# Altium schematic symbol library CompleteLibrary.SchLib: 385 symbols (part 1 of 3)
Pins are listed as number, name and electrical type; pins without a type are passive.

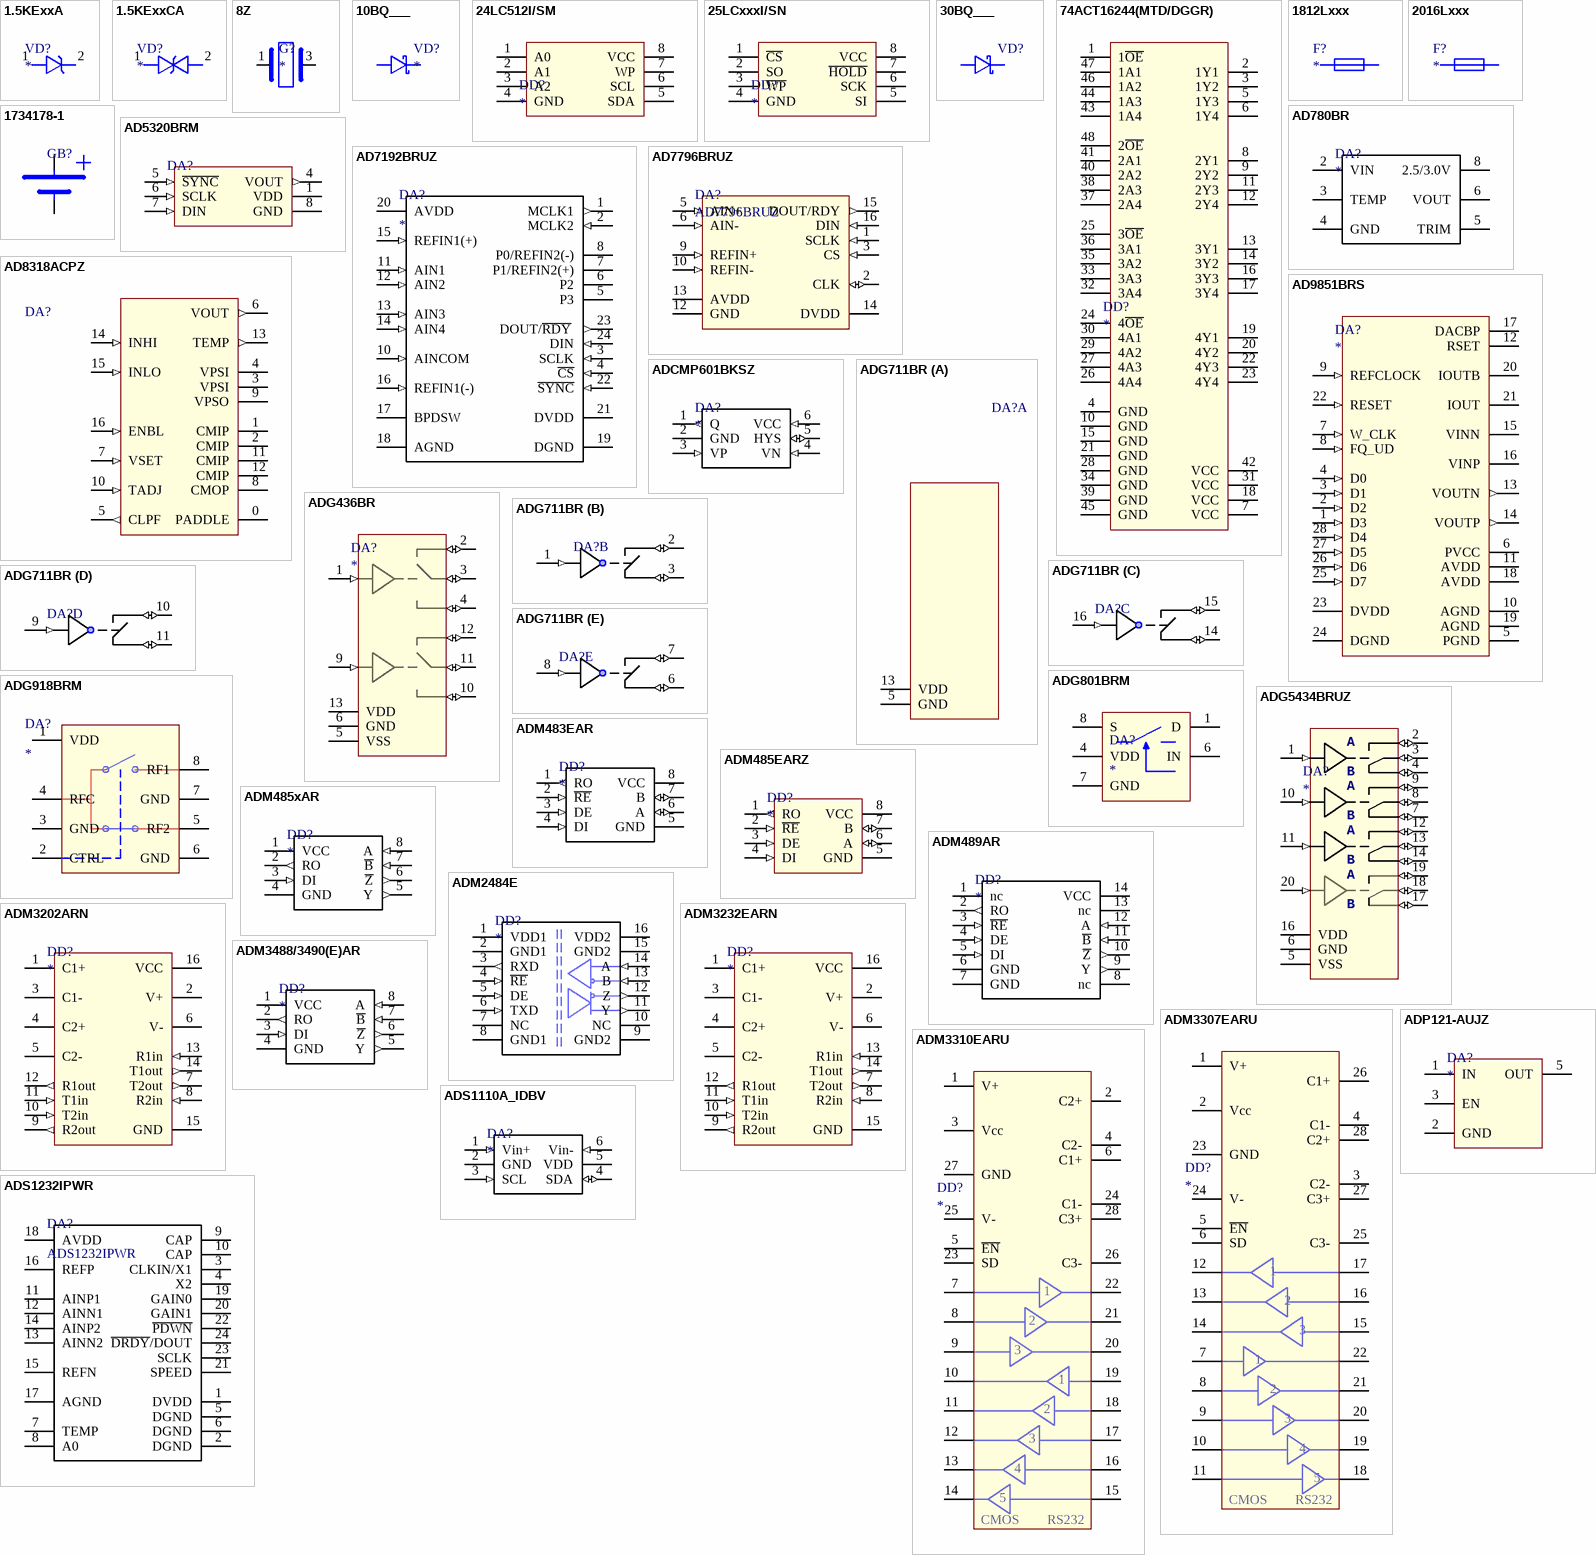
[diagram p0: symbols 1.5KExxA to ADS1232IPWR]

## 1.5KExxA
designator VD?
DIODE TVS Unidirectional 1500W TRANSIL 6.8V...440V; Описание: ???; Аналог: нет
footprint R6
pins: 1, 2

## 1.5KExxCA
designator VD?
DIODE TVS Bidirectional 1500W TRANSIL 6.8V...440V; Описание: ???; Аналог: нет
footprint R6
pins: 1, 2

## 8Z
designator G?
OSCILLATOR TXC 2.5x2.0mm; Описание: Кварцевый резонатор SMD; Аналог: нет; x: 8Z-27.120MAHQ-T
footprint TXC_8Z
pins: 1, 3

## 10BQ___
designator VD?
DIODE Schottky rectifier; Описание: Диод SMB; Аналог: нет; x: 10bq015/030/040/060/100
footprint SMB_10BQ40
pins: 1, 2

## 24LC512I/SM
designator DD?
IC MEMORY 512K I2C CMOS Serial EEPROM; Описание: ???; Аналог: нет
footprint SO8_24LC412
pins: 1 A0, 2 A1, 3 A2, 4 GND, 5 SDA, 6 SCL, 7 WP, 8 VCC

## 25LCxxxI/SN
designator DD?
IC MEMORY SPI Serial EEPROM; Описание: ???; Аналог: нет
footprint SO8
pins: 1 ~{CS}, 2 SO, 3 ~{WP}, 4 GND, 5 SI, 6 SCK, 7 ~{HOLD}, 8 VCC

## 30BQ___
designator VD?
DIODE Schottky rectifier; Описание: Диод SMC; Аналог: нет; x: 30bq040 30bq060 30bq100
footprint SMC
pins: 1, 2

## 74ACT16244(MTD/DGGR)
designator DD?
IC 16-bit  buffers/line drivers TSSOP48; Описание: ???; Аналог: нет
footprint TSSOP48_SN54ACT16244
pins: 1 1~{OE}, 2 1Y1, 3 1Y2, 4 GND, 5 1Y3, 6 1Y4, 7 VCC, 8 2Y1, 9 2Y2, 10 GND, 11 2Y3, 12 2Y4, 13 3Y1, 14 3Y2, 15 GND, 16 3Y3, 17 3Y4, 18 VCC, 19 4Y1, 20 4Y2, 21 GND, 22 4Y3, 23 4Y4, 24 4~{OE}, 25 3~{OE}, 26 4A4, 27 4A3, 28 GND, 29 4A2, 30 4A1, 31 VCC, 32 3A4, 33 3A3, 34 GND, 35 3A2, 36 3A1, 37 2A4, 38 2A3, 39 GND, 40 2A2, 41 2A1, 42 VCC, 43 1A4, 44 1A3, 45 GND, 46 1A2, 47 1A1, 48 2~{OE}

## 1812Lxxx
designator F?
RESISTOR PTC Resettable Fuse; Описание: Предохранитель; Аналог: нет
footprint 1812Lxxx
pins: 1, 2

## 2016Lxxx
designator F?
RESISTOR PTC Resettable Fuse; Описание: Предохранитель; Аналог: нет
footprint 2016L050
pins: 1, 2

## 1734178-1
designator GB?  (value not drawn)
BATTERY CR2032; Описание: Литиевая батарейка; Аналог: нет
footprint 1734178-1
pins: 1 +, 2 -

## AD780BR
designator DA?
IC High Precision Reference 2.5 V/3.0 V; Описание: Микросхема SO8; Аналог: нет
footprint SO8
pins: 2 VIN, 3 TEMP, 4 GND, 5 TRIM, 6 VOUT, 8 2.5/3.0V

## AD5320BRM
designator DA?  (value not drawn)
IC 12-Bit DAC; Описание: ???; Аналог: нет
footprint MSOP8_AD5320
pins: 1 VDD (power), 4 VOUT (out), 5 ~{SYNC} (in), 6 SCLK (in), 7 DIN (in), 8 GND (power)

## AD7192BRUZ
designator DA?
IC 240bit sigma-delta ADC; Аналог: нет; Описание: ???
footprint TSSOP24_AD
pins: 1 MCLK1 (out), 2 MCLK2 (in), 3 SCLK (in), 4 ~{CS} (in), 5 P3, 6 P2, 7 P1/REFIN2(+), 8 P0/REFIN2(-), 10 AINCOM (in), 11 AIN1 (in), 12 AIN2 (in), 13 AIN3 (in), 14 AIN4 (in), 15 REFIN1(+) (in), 16 REFIN1(-) (in), 17 BPDSW, 18 AGND, 19 DGND, 20 AVDD, 21 DVDD, 22 ~{SYNC} (in), 23 DOUT/~{RDY}  (out), 24 DIN (in)

## AD7796BRUZ
designator DA?
IC 24-bit sigma-delta ADC; Описание: ???; Аналог: нет
footprint TSSOP16_TPS43000
pins: 1 SCLK (in), 2 CLK (io), 3 CS (in), 5 AIN+ (in), 6 AIN- (in), 9 REFIN+ (in), 10 REFIN- (in), 12 GND (power), 13 AVDD (power), 14 DVDD (power), 15 DOUT/RDY (out), 16 DIN (in)

## AD8318ACPZ
designator DA?  (value not drawn)
IC 1MHz...8GHz 70dB Logarithmic Detector/Controller; Описание: ???; Аналог: нет
footprint LFCSP16_AD8318
pins: 0 PADDLE (power) "Internally Connected to CMIP (Solder to Ground).", 1 CMIP (power) "Device Common (Input System Ground)", 2 CMIP (power) "Device Common (Input System Ground)", 3 VPSI (power) "Positive Supply Voltage (Input System): 4.5 V to 5.5 V.", 4 VPSI (power) "Positive Supply Voltage (Input System): 4.5 V to 5.5 V.", 5 CLPF (out) "Loop Filter Capacitor", 6 VOUT (out) "Measurement and Controller Output.", 7 VSET (in) "Setpoint Input for Controller Mode or Feedback Input for Measurement Mode.", 8 CMOP (power) "Device Common (Output System Ground).", 9 VPSO (power) "Positive Supply Voltage (Output System): 4.5 V to 5.5 V.", 10 TADJ (in) "Temperature Compensation Adjustment.", 11 CMIP (power) "Device Common (Input System Ground)", 12 CMIP (power) "Device Common (Input System Ground)", 13 TEMP (out) "Temperature Sensor Output.", 14 INHI (in) "RF Input. Nominal input range: ?60 dBm to 0 dBm (re: 50 ?), ac-coupled.", 15 INLO (in) "RF Common for INHI. AC-coupled RF common.", 16 ENBL (in) "Device Enable. Connect to VPSI for normal operation. Connect pin to ground for disable mode."

## AD9851BRS
designator DA?
IC CMOS 180 MHz  DDS/DAC Synthesizer; Описание: ???; Аналог: нет
footprint SSOP28_AD9851BRS
pins: 1 D3 (in), 2 D2 (in), 3 D1 (in), 4 D0 (in), 5 PGND, 6 PVCC, 7 W_CLK (in), 8 FQ_UD (in), 9 REFCLOCK (in), 10 AGND, 11 AVDD, 12 RSET, 13 VOUTN (out), 14 VOUTP (out), 15 VINN, 16 VINP, 17 DACBP, 18 AVDD, 19 AGND, 20 IOUTB, 21 IOUT, 22 RESET (in), 23 DVDD, 24 DGND, 25 D7 (in), 26 D6 (in), 27 D5 (in), 28 D4 (in)

## ADCMP601BKSZ
designator DA?
IC; Описание: Микросхема SC70-6; Аналог: нет
footprint SC70-6
pins: 1 Q (out), 2 GND (power), 3 VP (in), 4 VN (in), 5 HYS (io), 6 VCC (in)

## ADG436BR
designator DA?
IC; Описание: ???; Аналог: нет
footprint SO16
footprint SOIC-16-150mil-COMPACT
pins: 1 IN (in), 2 D (io), 3 S (io), 4 D (io), 5 VSS (power), 6 GND (power), 9 IN (in), 10 D (io), 11 S (io), 12 D (io), 13 VDD (power)

## ADG711BR
designator DA?  (value not drawn)
IC CMOS Low Voltage 4 Ohm Quad SPST Switches; Описание: ???; Аналог: нет
footprint SO16
part A pins: 5 GND, 13 VDD
part B pins: 1 IN (in), 2 D (io), 3 S (io)
part C pins: 14 S (io), 15 D (io), 16 IN (in)
part D pins: 9 IN (in), 10 D (io), 11 S (io)
part E pins: 6 S (io), 7 D (io), 8 IN (in)

## ADG801BRM
designator DA?
IC <0.4 ohm CMOS 1.8 V to 5.5 V  SPST Switch; Описание: ???; Аналог: нет
footprint MSOP8_ADG801
pins: 1 D, 4 VDD, 6 IN, 7 GND, 8 S

## ADG918BRM
designator DA?
IC Wideband 4 GHz CMOS SPDT; Описание: ???; Аналог: нет
footprint MSOP8_ADG918
pins: 1 VDD, 2 CTRL, 3 GND, 4 RFC, 5 RF2, 6 GND, 7 GND, 8 RF1

## ADG5434BRUZ
designator DA?
IC; Описание: ???; Аналог: нет
footprint TSSOP20_AD
pins: 1 IN (in), 2 D (io), 3 S (io), 4 D (io), 5 VSS (power), 6 GND (power), 7 D (io), 8 S (io), 9 D (io), 10 IN (in), 11 IN (in), 12 D (io), 13 S (io), 14 D (io), 16 VDD (power), 17 D (io), 18 S (io), 19 D (io), 20 IN (in)
text: A; B

## ADM483EAR
designator DD?
IC TRANSCEIVER RS485 +5V 250kbps HalfDuplex; Описание: ???; Аналог: нет
footprint SO8
pins: 1 RO (out), 2 ~{RE} (in), 3 DE (in), 4 DI (in), 5 GND (power), 6 A (io), 7 B (io), 8 VCC (power)

## ADM485EARZ
designator DD?
IC TRANSCEIVER RS485; Описание: ???; Аналог: нет
footprint SO8
pins: 1 RO (out), 2 ~{RE} (in), 3 DE (in), 4 DI (in), 5 GND (power), 6 A (io), 7 B (io), 8 VCC (power)

## ADM485xAR
designator DD?
IC TRANSCEIVER RS485 +5V FullDuplex 115kbps(x=4)/500kbps(x=5)/2.5Mbps(x=6)/10Mbps(x=7); Описание: Микросхема SO8; Аналог: нет; x: ADM4850: 115 kbps ADM4851: 500 kbps ADM4852: 2.5 Mbps ADM4853: 10 Mbps
footprint SO8
pins: 1 VCC (power), 2 RO (out), 3 DI (in), 4 GND (power), 5 Y (out), 6 ~{Z} (out), 7 ~{B} (in), 8 A (in)

## ADM489AR
designator DD?
IC TRANSCEIVER RS485 +5V 250kbps FullDuplex; Описание: Микросхема SO14; Аналог: MAX489ESD
footprint SO14
pins: 1 nc, 2 RO (out), 3 ~{RE} (in), 4 DE (in), 5 DI (in), 6 GND (power), 7 GND (power), 8 nc, 9 Y (out), 10 ~{Z} (out), 11 ~{B} (in), 12 A (in), 13 nc, 14 VCC (power)

## ADM2484E
designator DD?
IC 500 kbps, ESD Protected, Half-/Full-Duplex,  iCoupler, Isolated RS-485 Transceiver; Описание: ???; Аналог: нет
footprint SO16W
pins: 1 VDD1, 2 GND1, 3 RXD (out), 4 ~{RE} (in), 5 DE (in), 6 TXD (in), 7 NC, 8 GND1, 9 GND2, 10 NC, 11 Y (out), 12 Z (out), 13 B (in), 14 A (in), 15 GND2, 16 VDD2

## ADM3202ARN
designator DD?
IC Rs-232 xceiver; Описание: ???; Аналог: нет
footprint SO16
pins: 1 C1+ (power), 2 V+ (power), 3 C1- (power), 4 C2+ (power), 5 C2- (power), 6 V- (power), 7 T2out (out), 8 R2in (in), 9 R2out (out), 10 T2in (in), 11 T1in (in), 12 R1out (out), 13 R1in (in), 14 T1out (out), 15 GND (power), 16 VCC (power)

## ADM3232EARN
designator DD?
IC Rs-232 xceiver; Описание: Микросхема SO16; Аналог: нет
footprint SO16
pins: 1 C1+ (power), 2 V+ (power), 3 C1- (power), 4 C2+ (power), 5 C2- (power), 6 V- (power), 7 T2out (out), 8 R2in (in), 9 R2out (out), 10 T2in (in), 11 T1in (in), 12 R1out (out), 13 R1in (in), 14 T1out (out), 15 GND (power), 16 VCC (power)

## ADM3307EARU
designator DD?
IC 15 kV ESD Protected, 3.3 V Rs-232 Transceivers; Описание: ???; Аналог: нет
footprint TSSOP28_ADM3310EARU
pins: 1 V+, 2 Vcc, 3 C2-, 4 C1-, 5 ~{EN}, 6 SD, 7, 8, 9, 10, 11, 12, 13, 14, 15, 16, 17, 18, 19, 20, 21, 22, 23 GND, 24 V-, 25 C3-, 26 C1+, 27 C3+, 28 C2+
text: CMOS; RS232

## ADM3310EARU
designator DD?
IC 15 kV ESD Protected, 3.3 V Rs-232 Transceivers; Описание: ???; Аналог: нет
footprint TSSOP28_ADM3310EARU
pins: 1 V+, 2 C2+, 3 Vcc, 4 C2-, 5 ~{EN}, 6 C1+, 7, 8, 9, 10, 11, 12, 13, 14, 15, 16, 17, 18, 19, 20, 21, 22, 23 SD, 24 C1-, 25 V-, 26 C3-, 27 GND, 28 C3+
text: CMOS; RS232

## ADM3488/3490(E)AR
designator DD?
IC TRANSCEIVER RS485 +3.3V FullDuplex 10Mbps; Описание: Микросхема SO8; Аналог: нет; x: ADM3488 - 250kbps, ADM3490 - 10Mbps, E - esd protection
footprint SO8
pins: 1 VCC (power), 2 RO (out), 3 DI (in), 4 GND (power), 5 Y (out), 6 ~{Z} (out), 7 ~{B} (in), 8 A (in)

## ADP121-AUJZ
designator DA?
IC 150mA LDO; Описание: ???; Аналог: нет
footprint SOT23-5
pins: 1 IN, 2 GND, 3 EN, 5 OUT

## ADS1110A_IDBV
designator DA?
IC 16bit adc with onboard reference; Аналог: нет; Описание: ???
footprint SOT23-6
pins: 1 Vin+ (in), 2 GND (power), 3 SCL (in), 4 SDA (io), 5 VDD (power), 6 Vin- (in)

## ADS1232IPWR
designator DA?
IC ...; Аналог: нет; Описание: ???
footprint TSSOP24_MSP430
pins: 1 DVDD, 2 DGND, 3 CLKIN/X1, 4 X2, 5 DGND, 6 DGND, 7 TEMP, 8 A0, 9 CAP, 10 CAP, 11 AINP1, 12 AINN1, 13 AINN2, 14 AINP2, 15 REFN, 16 REFP, 17 AGND, 18 AVDD, 19 GAIN0, 20 GAIN1, 21 SPEED, 22 ~{PDWN}, 23 SCLK, 24 ~{DRDY}/DOUT

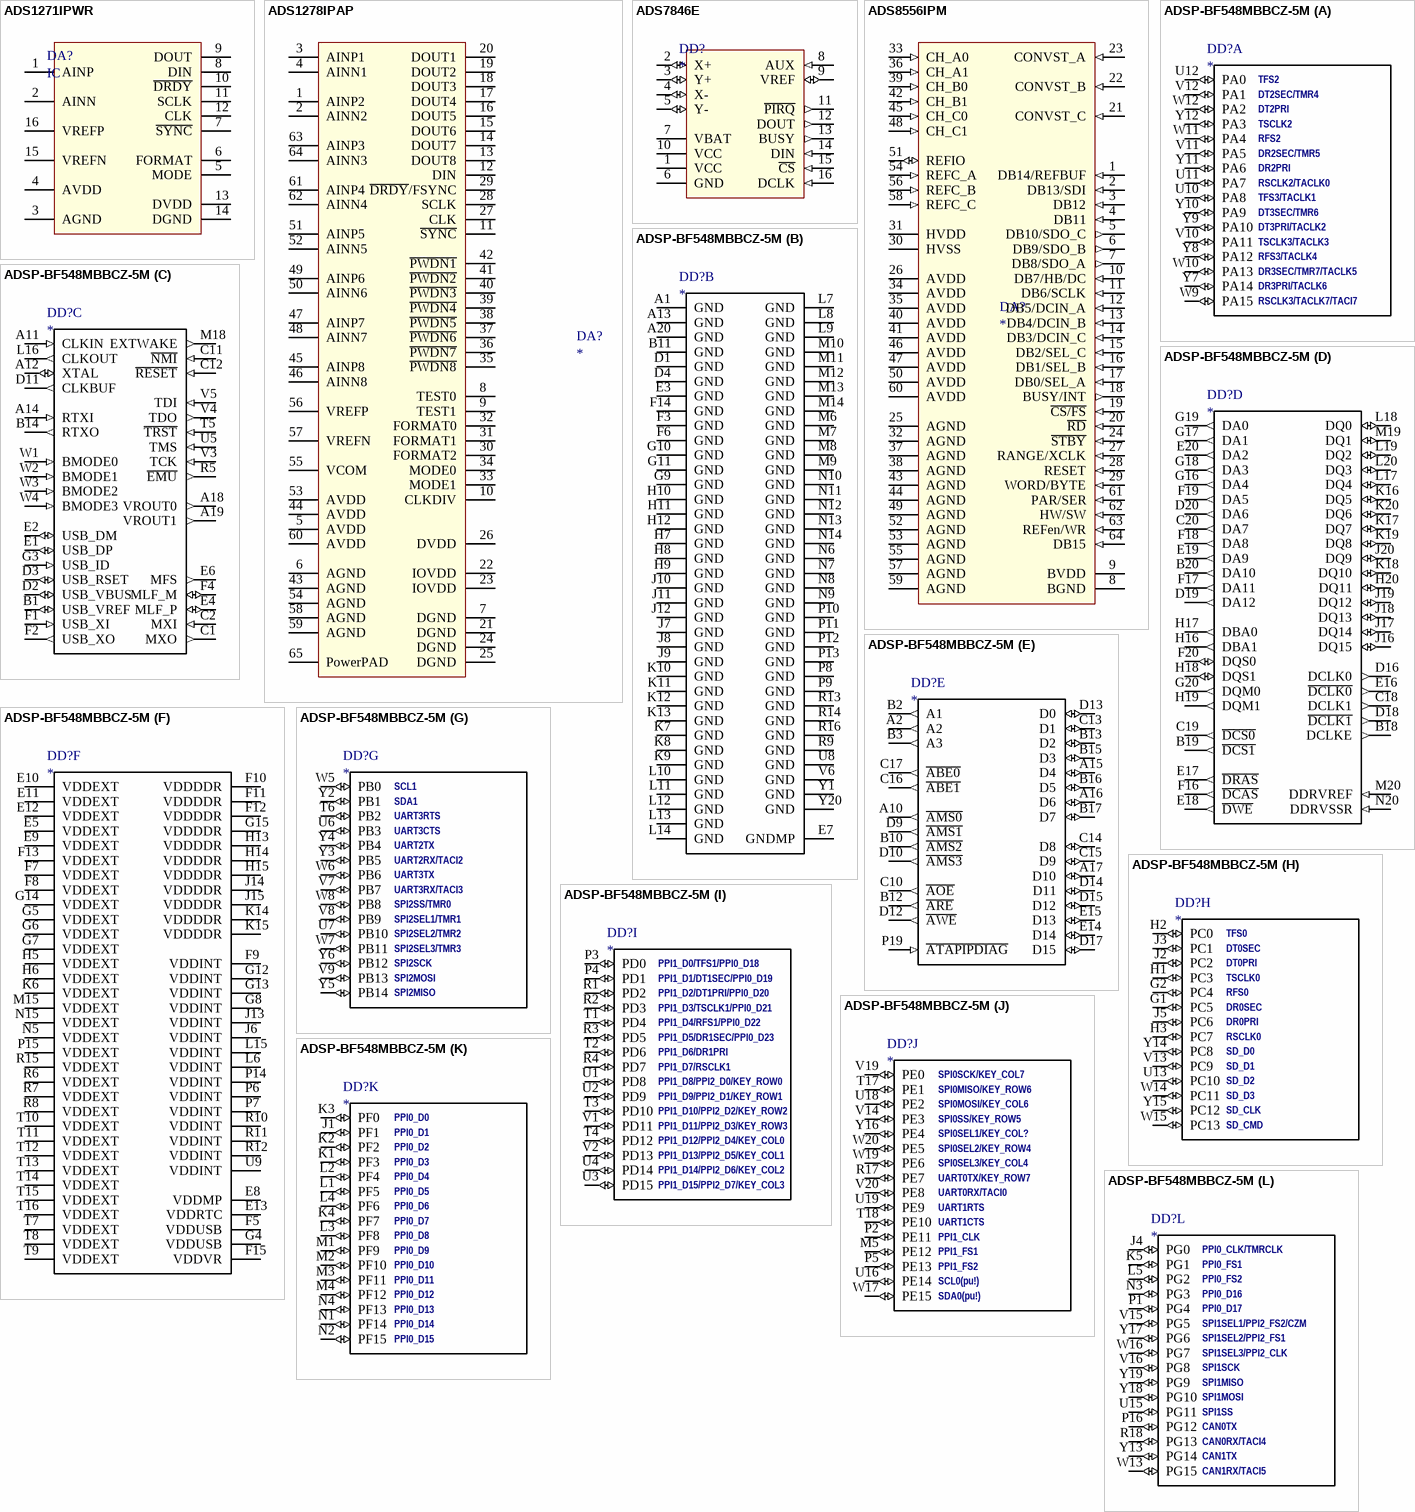
[diagram p1: symbols ADS1271IPWR to ADSP-BF548MBBCZ-5M]

## ADS1271IPWR
designator DA?, comment IC
IC ...; Описание: ???; Аналог: нет
footprint TSSOP16_TPS43000
pins: 1 AINP, 2 AINN, 3 AGND, 4 AVDD, 5 MODE, 6 FORMAT, 7 ~{SYNC}, 8 DIN, 9 DOUT, 10 ~{DRDY}, 11 SCLK, 12 CLK, 13 DVDD, 14 DGND, 15 VREFN, 16 VREFP

## ADS1278IPAP
designator DA?
IC Octal Simultaneous Sampling, 24-Bit Analog-to-Digital Converters; Описание: ???; Аналог: нет
footprint PQFP64_ADS1278
pins: 1 AINP2, 2 AINN2, 3 AINP1, 4 AINN1, 5 AVDD, 6 AGND, 7 DGND, 8 TEST0, 9 TEST1, 10 CLKDIV, 11 ~{SYNC}, 12 DIN, 13 DOUT8, 14 DOUT7, 15 DOUT6, 16 DOUT5, 17 DOUT4, 18 DOUT3, 19 DOUT2, 20 DOUT1, 21 DGND, 22 IOVDD, 23 IOVDD, 24 DGND, 25 DGND, 26 DVDD, 27 CLK, 28 SCLK, 29 ~{DRDY}/FSYNC, 30 FORMAT2, 31 FORMAT1, 32 FORMAT0, 33 MODE1, 34 MODE0, 35 ~{PWDN8}, 36 ~{PWDN7}, 37 ~{PWDN6}, 38 ~{PWDN5}, 39 ~{PWDN4}, 40 ~{PWDN3}, 41 ~{PWDN2}, 42 ~{PWDN1}, 43 AGND, 44 AVDD, 45 AINP8, 46 AINN8, 47 AINP7, 48 AINN7, 49 AINP6, 50 AINN6, 51 AINP5, 52 AINN5, 53 AVDD, 54 AGND, 55 VCOM, 56 VREFP, 57 VREFN, 58 AGND, 59 AGND, 60 AVDD, 61 AINP4, 62 AINN4, 63 AINP3, 64 AINN3, 65 PowerPAD

## ADS7846E
designator DD?
IC; Описание: ???; Аналог: нет
footprint SSOP16_ADS7846E
pins: 1 VCC (power), 2 X+ (io), 3 Y+ (io), 4 X- (io), 5 Y- (io), 6 GND (power), 7 VBAT (power), 8 AUX (in), 9 VREF (io), 10 VCC (power), 11 ~{PIRQ} (out), 12 DOUT (out), 13 BUSY (out), 14 DIN (in), 15 ~{CS} (in), 16 DCLK (in)

## ADS8556IPM
designator DA?
IC 16-bit 6 channel simultaneous sampling SAR ADC; Описание: ???; Аналог: нет
footprint PQFP64_ADS8556
pins: 1 DB14/REFBUF (in), 2 DB13/SDI (in), 3 DB12 (in), 4 DB11 (in), 5 DB10/SDO_C (out), 6 DB9/SDO_B (out), 7 DB8/SDO_A (out), 8 BGND (power), 9 BVDD (power), 10 DB7/HB/DC (in), 11 DB6/SCLK (in), 12 DB5/DCIN_A (in), 13 DB4/DCIN_B (in), 14 DB3/DCIN_C (in), 15 DB2/SEL_C (in), 16 DB1/SEL_B (in), 17 DB0/SEL_A (in), 18 BUSY/INT (out), 19 ~{CS/FS} (in), 20 ~{RD} (in), 21 CONVST_C (in), 22 CONVST_B (in), 23 CONVST_A (in), 24 ~{STBY} (in), 25 AGND (power), 26 AVDD (power), 27 RANGE/XCLK (in), 28 RESET (in), 29 WORD/BYTE (in), 30 HVSS (power), 31 HVDD (power), 32 AGND (power), 33 CH_A0 (in), 34 AVDD (power), 35 AVDD (power), 36 CH_A1 (in), 37 AGND (power), 38 AGND (power), 39 CH_B0 (in), 40 AVDD (power), 41 AVDD (power), 42 CH_B1 (in), 43 AGND (power), 44 AGND (power), 45 CH_C0 (in), 46 AVDD (power), 47 AVDD (power), 48 CH_C1 (in), 49 AGND (power), 50 AVDD (power), 51 REFIO (io), 52 AGND (power), 53 AGND (power), 54 REFC_A (in), 55 AGND (power), 56 REFC_B (in), 57 AGND (power), 58 REFC_C (in), 59 AGND (power), 60 AVDD (power), 61 PAR/SER (in), 62 HW/SW (in), 63 REFen/WR (in), 64 DB15 (in)

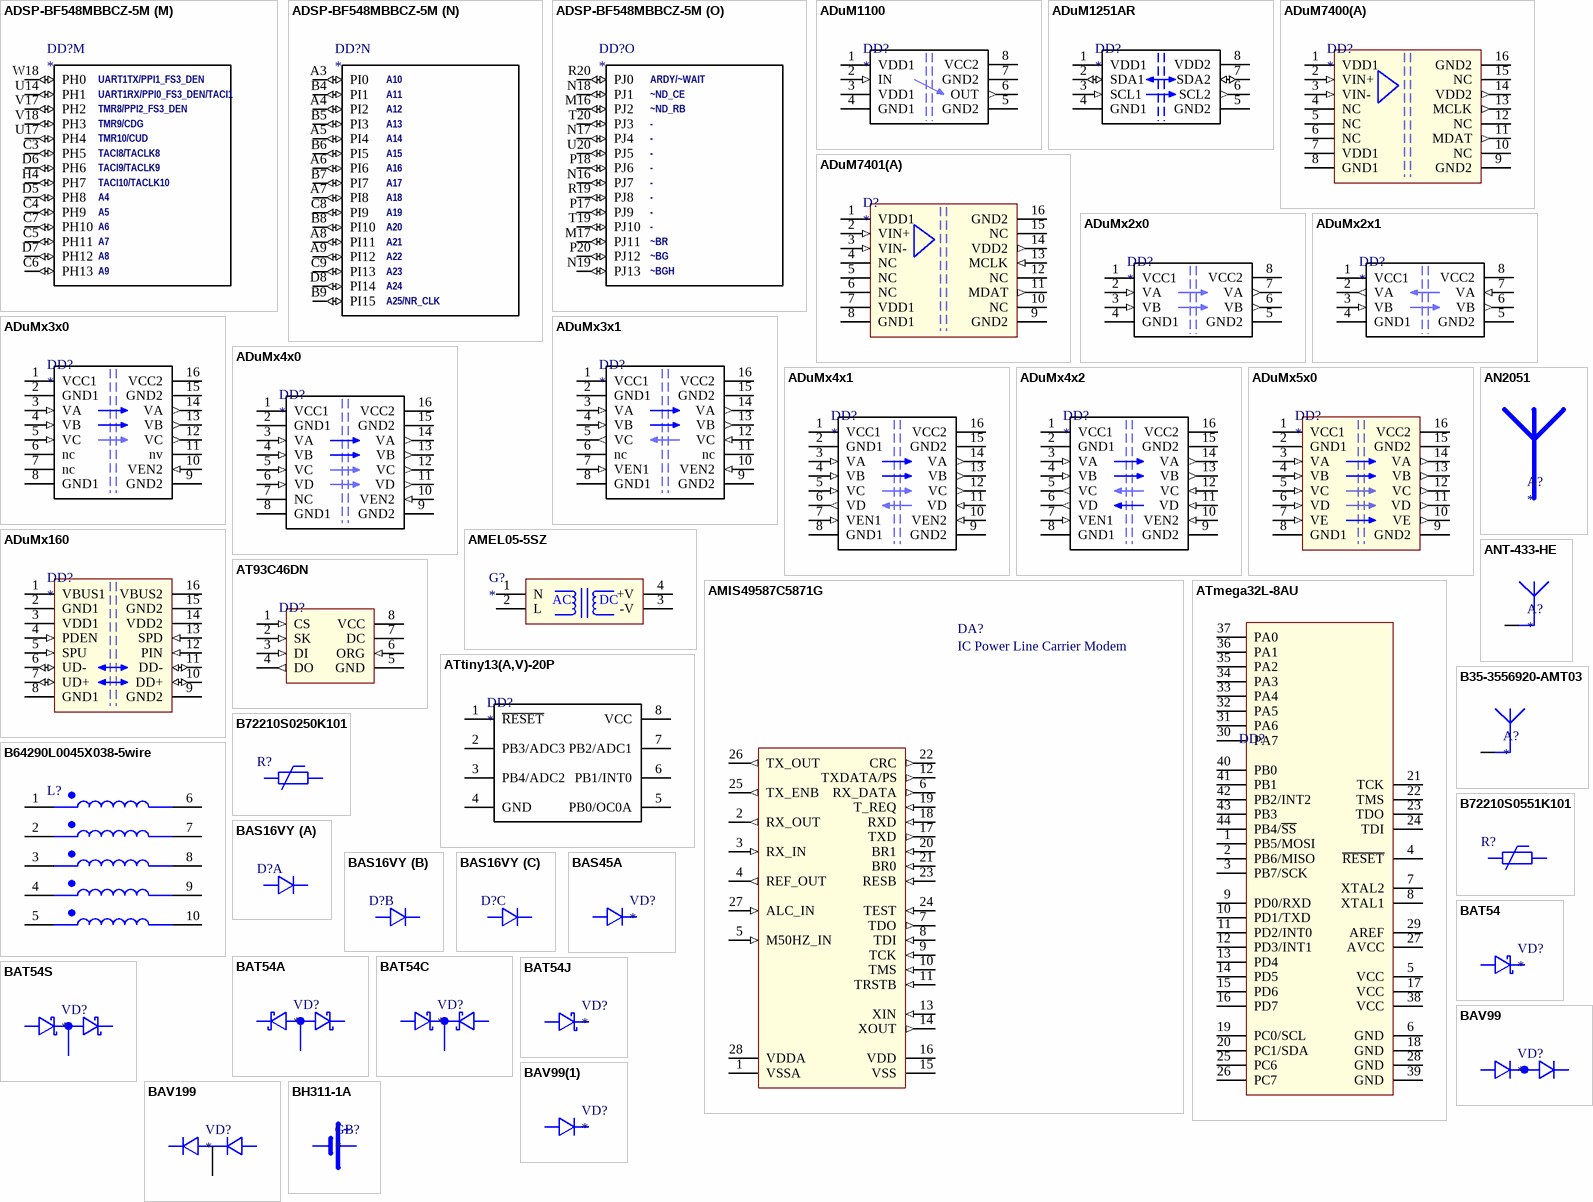
[diagram p2: symbols ADSP-BF548MBBCZ-5M to BH311-1A]

## ADSP-BF548MBBCZ-5M
designator DD?
IC UC/UP Blackfin  Embedded Processor; Описание: ???; Аналог: нет
footprint BGA400_ADSPBF548
part A pins: U10 PA8 (io), U11 PA7 (io), U12 PA0 (io), V10 PA11 (io), V11 PA5 (io), V12 PA1 (io), W9 PA15 (io), W10 PA13 (io), W11 PA4 (io), W12 PA2 (io), Y7 PA14 (io), Y8 PA12 (io), Y9 PA10 (io), Y10 PA9 (io), Y11 PA6 (io), Y12 PA3 (io)
part B pins: A1 GND, A13 GND, A20 GND, B11 GND, D1 GND, D4 GND, E3 GND, E7 GNDMP, F3 GND, F6 GND, F14 GND, G9 GND, G10 GND, G11 GND, H7 GND, H8 GND, H9 GND, H10 GND, H11 GND, H12 GND, J7 GND, J8 GND, J9 GND, J10 GND, J11 GND, J12 GND, K7 GND, K8 GND, K9 GND, K10 GND, K11 GND, K12 GND, K13 GND, L7 GND, L8 GND, L9 GND, L10 GND, L11 GND, L12 GND, L13 GND, L14 GND, M6 GND, M7 GND, M8 GND, M9 GND, M10 GND, M11 GND, M12 GND, M13 GND, M14 GND, N6 GND, N7 GND, N8 GND, N9 GND, N10 GND, N11 GND, N12 GND, N13 GND, N14 GND, P8 GND, P9 GND, P10 GND, P11 GND, P12 GND, P13 GND, R9 GND, R13 GND, R14 GND, R16 GND, U8 GND, V6 GND, Y1 GND, Y20 GND
part C pins: A11 CLKIN (in), A12 XTAL (io), A14 RTXI (in), A18 VROUT0 (out), A19 VROUT1 (out), B1 USB_VREF (io), B14 RTXO (out), C1 MXO (out), C2 MXI (in), C11 ~{NMI} (in), C12 ~{RESET} (in), D2 USB_VBUS (io), D3 USB_RSET (io), D11 CLKBUF (out), E1 USB_DP (io), E2 USB_DM (io), E4 MLF_P (io), E6 MFS (out), F1 USB_XI (in), F2 USB_XO (out), F4 MLF_M (io), G3 USB_ID (in), L16 CLKOUT (out), M18 EXTWAKE (out), R5 ~{EMU} (out), T5 ~{TRST} (in), U5 TMS (in), V3 TCK (in), V4 TDO (out), V5 TDI (in), W1 BMODE0 (in), W2 BMODE1 (in), W3 BMODE2 (in), W4 BMODE3 (in)
part D pins: B18 DCLKE (out), B19 ~{DCS1} (out), B20 DA10 (out), C18 DCLK1 (out), C19 ~{DCS0} (out), C20 DA7 (out), D16 DCLK0 (out), D18 ~{DCLK1} (out), D19 DA12 (out), D20 DA6 (out), E16 ~{DCLK0} (out), E17 ~{DRAS} (out), E18 ~{DWE} (out), E19 DA9 (out), E20 DA2 (out), F16 ~{DCAS} (out), F17 DA11 (out), F18 DA8 (out), F19 DA5 (out), F20 DQS0 (io), G16 DA4 (out), G17 DA1 (out), G18 DA3 (out), G19 DA0 (out), G20 DQM0 (out), H16 DBA1 (out), H17 DBA0 (out), H18 DQS1 (io), H19 DQM1 (out), H20 DQ11 (io), J16 DQ15 (io), J17 DQ14 (io), J18 DQ13 (io), J19 DQ12 (io), J20 DQ9 (io), K16 DQ5 (io), K17 DQ7 (io), K18 DQ10 (io), K19 DQ8 (io), K20 DQ6 (io), L17 DQ4 (io), L18 DQ0 (io), L19 DQ2 (io), L20 DQ3 (io), M19 DQ1 (io), M20 DDRVREF (in), N20 DDRVSSR (in)
part E pins: A2 (out), A10 ~{AMS0} (out), A15 D4 (io), A16 D6 (io), A17 D10 (io), B2 A1 (out), B3 A3 (out), B10 ~{AMS2} (out), B12 ~{ARE} (out), B13 D2 (io), B15 D3 (io), B16 D5 (io), B17 D7 (io), C10 ~{AOE} (out), C13 D1 (io), C14 D8 (io), C15 D9 (io), C16 ~{ABE1} (out), C17 ~{ABE0} (out), D9 ~{AMS1} (out), D10 ~{AMS3} (out), D12 ~{AWE} (out), D13 D0 (io), D14 D11 (io), D15 D12 (io), D17 D15 (io), E14 D14 (io), E15 D13 (io), P19 ~{ATAPIPDIAG} (in)
part F pins: E5 VDDEXT, E8 VDDMP, E9 VDDEXT, E10 VDDEXT, E11 VDDEXT, E12 VDDEXT, E13 VDDRTC, F5 VDDUSB, F7 VDDEXT, F8 VDDEXT, F9 VDDINT, F10 VDDDDR, F11 VDDDDR, F12 VDDDDR, F13 VDDEXT, F15 VDDVR, G4 VDDUSB, G5 VDDEXT, G6 VDDEXT, G7 VDDEXT, G8 VDDINT, G12 VDDINT, G13 VDDINT, G14 VDDEXT, G15 VDDDDR, H5 VDDEXT, H6 VDDEXT, H13 VDDDDR, H14 VDDDDR, H15 VDDDDR, J6 VDDINT, J13 VDDINT, J14 VDDDDR, J15 VDDDDR, K6 VDDEXT, K14 VDDDDR, K15 VDDDDR, L6 VDDINT, L15 VDDINT, M15 VDDEXT, N5 VDDEXT, N15 VDDEXT, P6 VDDINT, P7 VDDINT, P14 VDDINT, P15 VDDEXT, R6 VDDEXT, R7 VDDEXT, R8 VDDEXT, R10 VDDINT, R11 VDDINT, R12 VDDINT, R15 VDDEXT, T7 VDDEXT, T8 VDDEXT, T9 VDDEXT, T10 VDDEXT, T11 VDDEXT, T12 VDDEXT, T13 VDDEXT, T14 VDDEXT, T15 VDDEXT, T16 VDDEXT, U9 VDDINT
part G pins: T6 PB2 (io), U6 PB3 (io), U7 PB10 (io), V7 PB7 (io), V8 PB9 (io), V9 PB13 (io), W5 PB0 (io), W6 PB6 (io), W7 PB11 (io), W8 PB8 (io), Y2 PB1 (io), Y3 PB5 (io), Y4 PB4 (io), Y5 PB14 (io), Y6 PB12 (io)
part H pins: G1 PC5 (io), G2 PC4 (io), H1 PC3 (io), H2 PC0 (io), H3 PC7 (io), J2 PC2 (io), J3 PC1 (io), J5 PC6 (io), U13 PC10 (io), V13 PC9 (io), W14 PC11 (io), W15 PC13 (io), Y14 PC8 (io), Y15 PC12 (io)
part I pins: P3 PD0 (io), P4 PD1 (io), R1 PD2 (io), R2 PD3 (io), R3 PD5 (io), R4 PD7 (io), T1 PD4 (io), T2 PD6 (io), T3 PD10 (io), T4 PD12 (io), U1 PD8 (io), U2 PD9 (io), U3 PD15 (io), U4 PD14 (io), V1 PD11 (io), V2 PD13 (io)
part J pins: M5 PE12 (io), P2 PE11 (io), P5 PE13 (io), R17 PE7 (io), T17 PE1 (io), T18 PE10 (io), U16 PE14 (io), U18 PE2 (io), U19 PE9 (io), V14 PE3 (io), V19 PE0 (io), V20 PE8 (io), W17 PE15 (io), W19 PE6 (io), W20 PE5 (io), Y16 PE4 (io)
part K pins: J1 PF1 (io), K1 PF3 (io), K2 PF2 (io), K3 PF0 (io), K4 PF7 (io), L1 PF5 (io), L2 PF4 (io), L3 PF8 (io), L4 PF6 (io), M1 PF9 (io), M2 PF10 (io), M3 PF11 (io), M4 PF12 (io), N1 PF14 (io), N2 PF15 (io), N4 PF13 (io)
part L pins: J4 PG0 (io), K5 PG1 (io), L5 PG2 (io), N3 PG3 (io), P1 PG4 (io), P16 PG12 (io), R18 PG13 (io), U15 PG11 (io), V15 PG5 (io), V16 PG8 (io), W13 PG15 (io), W16 PG7 (io), Y13 PG14 (io), Y17 PG6 (io), Y18 PG10 (io), Y19 PG9 (io)
part M pins: C3 PH5 (io), C4 PH9 (io), C5 PH11 (io), C6 PH13 (io), C7 PH10 (io), D5 PH8 (io), D6 PH6 (io), D7 PH12 (io), H4 PH7 (io), U14 PH1 (io), U17 PH4 (io), V17 PH2 (io), V18 PH3 (io), W18 PH0 (io)
part N pins: A3 PI0 (io), A4 PI2 (io), A5 PI4 (io), A6 PI6 (io), A7 PI8 (io), A8 PI11 (io), A9 PI12 (io), B4 PI1 (io), B5 PI3 (io), B6 PI5 (io), B7 PI7 (io), B8 PI10 (io), B9 PI15 (io), C8 PI9 (io), C9 PI13 (io), D8 PI14 (io)
part O pins: M16 PJ2 (io), M17 PJ11 (io), N16 PJ7 (io), N17 PJ4 (io), N18 PJ1 (io), N19 PJ13 (io), P17 PJ9 (io), P18 PJ6 (io), P20 PJ12 (io), R19 PJ8 (io), R20 PJ0 (io), T19 PJ10 (io), T20 PJ3 (io), U20 PJ5 (io)
part A text: TFS2; DT2SEC/TMR4; DT2PRI; TSCLK2; RFS2; DR2SEC/TMR5; DR2PRI; RSCLK2/TACLK0; TFS3/TACLK1; DT3SEC/TMR6; DT3PRI/TACLK2; TSCLK3/TACLK3; RFS3/TACLK4; DR3SEC/TMR7/TACLK5; DR3PRI/TACLK6; RSCLK3/TACLK7/TACI7
part G text: SCL1; SDA1; UART3RTS; UART3CTS; UART2TX; UART2RX/TACI2; UART3TX; UART3RX/TACI3; SPI2SS/TMR0; SPI2SEL1/TMR1; SPI2SEL2/TMR2; SPI2SEL3/TMR3; SPI2SCK; SPI2MOSI; SPI2MISO
part H text: TFS0; DT0SEC; DT0PRI; TSCLK0; RFS0; DR0SEC; DR0PRI; RSCLK0; SD_D0; SD_D1; SD_D2; SD_D3; SD_CLK; SD_CMD
part I text: PPI1_D0/TFS1/PPI0_D18; PPI1_D1/DT1SEC/PPI0_D19; PPI1_D2/DT1PRI/PPI0_D20; PPI1_D3/TSCLK1/PPI0_D21; PPI1_D4/RFS1/PPI0_D22; PPI1_D5/DR1SEC/PPI0_D23; PPI1_D6/DR1PRI; PPI1_D7/RSCLK1; PPI1_D8/PPI2_D0/KEY_ROW0; PPI1_D9/PPI2_D1/KEY_ROW1; PPI1_D10/PPI2_D2/KEY_ROW2; PPI1_D11/PPI2_D3/KEY_ROW3; PPI1_D12/PPI2_D4/KEY_COL0; PPI1_D13/PPI2_D5/KEY_COL1; PPI1_D14/PPI2_D6/KEY_COL2; PPI1_D15/PPI2_D7/KEY_COL3
part J text: SPI0SCK/KEY_COL7; SPI0MISO/KEY_ROW6; SPI0MOSI/KEY_COL6; SPI0SS/KEY_ROW5; SPI0SEL1/KEY_COL?; SPI0SEL2/KEY_ROW4; SPI0SEL3/KEY_COL4; UART0TX/KEY_ROW7; UART0RX/TACI0; UART1RTS; UART1CTS; PPI1_CLK; PPI1_FS1; PPI1_FS2; SCL0(pu!); SDA0(pu!)
part K text: PPI0_D0; PPI0_D1; PPI0_D2; PPI0_D3; PPI0_D4; PPI0_D5; PPI0_D6; PPI0_D7; PPI0_D8; PPI0_D9; PPI0_D10; PPI0_D11; PPI0_D12; PPI0_D13; PPI0_D14; PPI0_D15
part L text: PPI0_CLK/TMRCLK; PPI0_FS1; PPI0_FS2; PPI0_D16; PPI0_D17; SPI1SEL1/PPI2_FS2/CZM; SPI1SEL2/PPI2_FS1; SPI1SEL3/PPI2_CLK; SPI1SCK; SPI1MISO; SPI1MOSI; SPI1SS; CAN0TX; CAN0RX/TACI4; CAN1TX; CAN1RX/TACI5
part M text: UART1TX/PPI1_FS3_DEN; UART1RX/PPI0_FS3_DEN/TACI1; TMR8/PPI2_FS3_DEN; TMR9/CDG; TMR10/CUD; TACI8/TACLK8; TACI9/TACLK9; TACI10/TACLK10
part N text: A21; A22; A23; A24; A25/NR_CLK
part O text: ARDY/~WAIT; ~ND_CE; ~ND_RB; -; ~BR; ~BG; ~BGH

## ADuM1100
designator DD?
IC Single-Channel Digital Isolator; Описание: Микросхема SO8; Аналог: нет
footprint SO8
pins: 1 VDD1 (power), 2 IN (in), 3 VDD1 (power), 4 GND1 (power), 5 GND2 (power), 6 OUT (out), 7 GND2 (power), 8 VCC2 (power)

## ADuM1251AR
designator DD?
IC i2c isolator; Описание: Микросхема SO8; Аналог: нет
footprint SO8
pins: 1 VDD1 (power), 2 SDA1 (io), 3 SCL1 (in), 4 GND1 (power), 5 GND2 (power), 6 SCL2 (out), 7 SDA2 (io), 8 VDD2 (power)

## ADuM7400(A)
designator DD?
IC Isolated Sigma-Delta Modulator (SO16,internal clock); Описание: ???; Аналог: нет
footprint SO16W
pins: 1 VDD1 (power), 2 VIN+ (in), 3 VIN- (in), 4 NC, 5 NC, 6 NC, 7 VDD1 (power), 8 GND1 (power), 9 GND2 (power), 10 NC, 11 MDAT (out), 12 NC, 13 MCLK (out), 14 VDD2 (out), 15 NC, 16 GND2 (power)

## ADuM7401(A)
designator D?
IC Isolated Sigma-Delta Modulator (SO16,external clock); Описание: ???; Аналог: нет
footprint SO16W
pins: 1 VDD1 (power), 2 VIN+ (in), 3 VIN- (in), 4 NC, 5 NC, 6 NC, 7 VDD1 (power), 8 GND1 (power), 9 GND2 (power), 10 NC, 11 MDAT (out), 12 NC, 13 MCLK (in), 14 VDD2 (out), 15 NC, 16 GND2 (power)

## ADuMx2x0
designator DD?
IC Dual-Channel Digital Isolator; Описание: Микросхема SO8; Аналог: нет
footprint SO8
pins: 1 VCC1 (power), 2 VA (in), 3 VB (in), 4 GND1 (power), 5 GND2 (power), 6 VB (out), 7 VA (out), 8 VCC2 (power)

## ADuMx2x1
designator DD?
IC Dual-Channel Digital Isolator; Описание: Микросхема SO8; Аналог: нет
footprint SO8
pins: 1 VCC1 (power), 2 VA (out), 3 VB (in), 4 GND1 (power), 5 GND2 (power), 6 VB (out), 7 VA (in), 8 VCC2 (power)

## ADuMx3x0
designator DD?
IC Quad-Channel Digital Isolator; Описание: ???; Аналог: нет
footprint SO16W
pins: 1 VCC1 (power), 2 GND1 (power), 3 VA (in), 4 VB (in), 5 VC (in), 6 nc, 7 nc, 8 GND1 (power), 9 GND2 (power), 10 VEN2 (in), 11 nv, 12 VC (out), 13 VB (out), 14 VA (out), 15 GND2 (power), 16 VCC2 (power)

## ADuMx3x1
designator DD?
IC Quad-Channel Digital Isolator; Описание: ???; Аналог: нет
footprint SO16W
pins: 1 VCC1 (power), 2 GND1 (power), 3 VA (in), 4 VB (in), 5 VC (out), 6 nc, 7 VEN1 (in), 8 GND1 (power), 9 GND2 (power), 10 VEN2 (in), 11 nc, 12 VC (in), 13 VB (out), 14 VA (out), 15 GND2 (power), 16 VCC2 (power)

## ADuMx4x0
designator DD?
IC Quad-Channel Digital Isolator; Описание: ???; Аналог: нет
footprint SO16W
pins: 1 VCC1 (power), 2 GND1 (power), 3 VA (in), 4 VB (in), 5 VC (in), 6 VD (in), 7 NC, 8 GND1 (power), 9 GND2 (power), 10 VEN2 (in), 11 VD (out), 12 VC (out), 13 VB (out), 14 VA (out), 15 GND2 (power), 16 VCC2 (power)

## ADuMx4x1
designator DD?
IC Quad-Channel Digital Isolator; Описание: ???; Аналог: нет
footprint SO16W
pins: 1 VCC1 (power), 2 GND1 (power), 3 VA (in), 4 VB (in), 5 VC (in), 6 VD (out), 7 VEN1 (in), 8 GND1 (power), 9 GND2 (power), 10 VEN2 (in), 11 VD (in), 12 VC (out), 13 VB (out), 14 VA (out), 15 GND2 (power), 16 VCC2 (power)

## ADuMx4x2
designator DD?
IC Quad-Channel Digital Isolator; Описание: ???; Аналог: нет
footprint SO16W
pins: 1 VCC1 (power), 2 GND1 (power), 3 VA (in), 4 VB (in), 5 VC (out), 6 VD (out), 7 VEN1 (in), 8 GND1 (power), 9 GND2 (power), 10 VEN2 (in), 11 VD (in), 12 VC (in), 13 VB (out), 14 VA (out), 15 GND2 (power), 16 VCC2 (power)

## ADuMx5x0
designator DD?
IC \5-Channel, Unidirectional Digital Isolator; Описание: ???; Аналог: нет
footprint SO16W
pins: 1 VCC1 (power), 2 GND1 (power), 3 VA (in), 4 VB (in), 5 VC (in), 6 VD (in), 7 VE (in), 8 GND1 (power), 9 GND2 (power), 10 VE (out), 11 VD (out), 12 VC (out), 13 VB (out), 14 VA (out), 15 GND2 (power), 16 VCC2 (power)

## ADuMx160
designator DD?
IC Full/Low Speed 2.5 kV/5 kV USB Digital Isolator; Описание: ???; Аналог: нет
footprint SO16W
pins: 1 VBUS1 (power), 2 GND1 (power), 3 VDD1 (power), 4 PDEN (in), 5 SPU (in), 6 UD- (io), 7 UD+ (io), 8 GND1 (power), 9 GND2 (power), 10 DD+ (io), 11 DD- (io), 12 PIN (in), 13 SPD (in), 14 VDD2 (power), 15 GND2 (power), 16 VBUS2 (power)

## AMEL05-5SZ
designator G?
MODULE POWER 5 Watt AC-DC Converter; Описание: ???; Аналог: нет
footprint AMEL05
pins: 1 N (power), 2 L (power), 3 -V (power), 4 +V (power)
text: AC; DC

## AMIS49587C5871G
designator DA?, comment IC Power Line Carrier Modem
IC; Описание: ???; Аналог: нет
footprint PLCC28_AMIS49587
pins: 1 VSSA, 2 RX_OUT (out), 3 RX_IN (in), 4 REF_OUT (out), 5 M50HZ_IN (in), 6 RX_DATA (out), 7 TDO (out), 8 TDI (in), 9 TCK (in), 10 TMS (in), 11 TRSTB (in), 12 TXDATA/PS (out), 13 XIN (in), 14 XOUT (out), 15 VSS, 16 VDD, 17 TXD (out), 18 RXD (in), 19 T_REQ (in), 20 BR1 (in), 21 BR0 (in), 22 CRC (out), 23 RESB (in), 24 TEST (in), 25 TX_ENB (out), 26 TX_OUT (out), 27 ALC_IN (in), 28 VDDA

## AN2051
designator A?
ANTENNA Multilayer Chip Antenna (Bluetooth, 2.4 GHz WLAN, ….); Описание: ???; Аналог: нет
footprint AN2051
pins: 1 FEED, 2 NC hidden

## ANT-433-HE
designator A?
ANTENNA 433MHz; Описание: Антенна; Аналог: нет
footprint ANT-433-HE
pins: 1

## AT93C46DN
designator DD?  (value not drawn)
IC Three-wire Serial EEPROM 1024bits; Описание: ???; Аналог: нет
footprint SO8
pins: 1 CS (in), 2 SK (in), 3 DI (in), 4 DO (out), 5 GND (power), 6 ORG (in), 7 DC, 8 VCC (power)

## ATmega32L-8AU
designator DD?  (value not drawn)
IC UC/UP 8bit AVR microcontroller; Описание: ???; Аналог: нет
footprint TQFP44_ATMEGA32
pins: 1 PB5/MOSI, 2 PB6/MISO, 3 PB7/SCK, 4 ~{RESET}, 5 VCC, 6 GND, 7 XTAL2, 8 XTAL1, 9 PD0/RXD, 10 PD1/TXD, 11 PD2/INT0, 12 PD3/INT1, 13 PD4, 14 PD5, 15 PD6, 16 PD7, 17 VCC, 18 GND, 19 PC0/SCL, 20 PC1/SDA, 21 TCK, 22 TMS, 23 TDO, 24 TDI, 25 PC6, 26 PC7, 27 AVCC, 28 GND, 29 AREF, 30 PA7, 31 PA6, 32 PA5, 33 PA4, 34 PA3, 35 PA2, 36 PA1, 37 PA0, 38 VCC, 39 GND, 40 PB0, 41 PB1, 42 PB2/INT2, 43 PB3, 44 PB4/~{SS}

## ATtiny13(A,V)-20P
designator DD?
IC 8bit AVR microcontroller; Описание: ???; Аналог: нет
footprint DIP8_ATTINY13
pins: 1 ~{RESET}, 2 PB3/ADC3, 3 PB4/ADC2, 4 GND, 5 PB0/OC0A, 6 PB1/INT0, 7 PB2/ADC1, 8 VCC

## B35-3556920-AMT03
designator A?
ANTENNA gps/glonass; Описание: Антенна; Аналог: нет
footprint B35-3556920-AMT03
pins: 1

## B64290L0045X038-5wire
designator L?  (value not drawn)
MAGNETIC 5-wire common choke; Описание: ???; Аналог: нет
footprint B64290L0045X038-5wire
pins: 1  , 2  , 3  , 4  , 5  , 6  , 7  , 8  , 9  , 10  

## B72210S0250K101
designator R?  (value not drawn)
PROTECTION 25vrms/39vdc varistor (standarD); Описание: ???; Аналог: нет
footprint B72210S0250K101
pins: 1, 2
1 alternate drawing of the same symbol

## B72210S0551K101
designator R?  (value not drawn)
PROTECTION 550vrms/745vdc varistor (standarD); Описание: ???; Аналог: нет
footprint B72210S0551K101
pins: 1, 2

## BAS16VY
designator D?  (value not drawn)
DIODE triple isolated diodes 100V 200mA; Описание: ???; Аналог: нет
footprint SOT363
part A pins: 1, 6
part B pins: 2, 5
part C pins: 3, 4

## BAS45A
designator VD?
DIODE Low-leakage diode; Описание: ???; Аналог: нет
footprint DO34_BAS45A
pins: 1, 2

## BAT54
designator VD?
DIODE Schottky barrier diodes; Описание: Диод SOT23; Аналог: нет
footprint SOT23
pins: 1, 3

## BAT54A
designator VD?
DIODE Schottky barrier diodes; Описание: Диодная сборка SOT23; Аналог: нет
footprint SOT23
pins: 1, 2, 3

## BAT54C
designator VD?
DIODE Schottky barrier diodes; Описание: Диодная сборка SOT23; Аналог: нет
footprint SOT23
pins: 1, 2, 3

## BAT54J
designator VD?
DIODE Schottky barrier diodes; Описание: Диод SOD323; Аналог: нет
footprint SOD323F_BAT54J
pins: 1, 2

## BAT54S
designator VD?
DIODE Schottky barrier diodes; Описание: Диодная сборка SOT23; Аналог: нет
footprint SOT23
pins: 1, 2, 3

## BAV99
designator VD?
DIODE High-speed double diode; Описание: Диодная сборка SOT23; Аналог: нет
footprint SOT23
pins: 1, 2, 3

## BAV99(1)
designator VD?
DIODE High-speed double diode; Описание: Диодная сборка SOT23; Аналог: нет
footprint SOT23
pins: 1, 3

## BAV199
designator VD?
DIODE Low-leakage double diode; Описание: Диодная сборка SOT23; Аналог: нет
footprint SOT23
pins: 1, 2, 3

## BH311-1A
designator GB?
BATTERY 1xAA battery holder; Описание: ???; Аналог: нет
footprint BH311-1A
pins: 1, 2

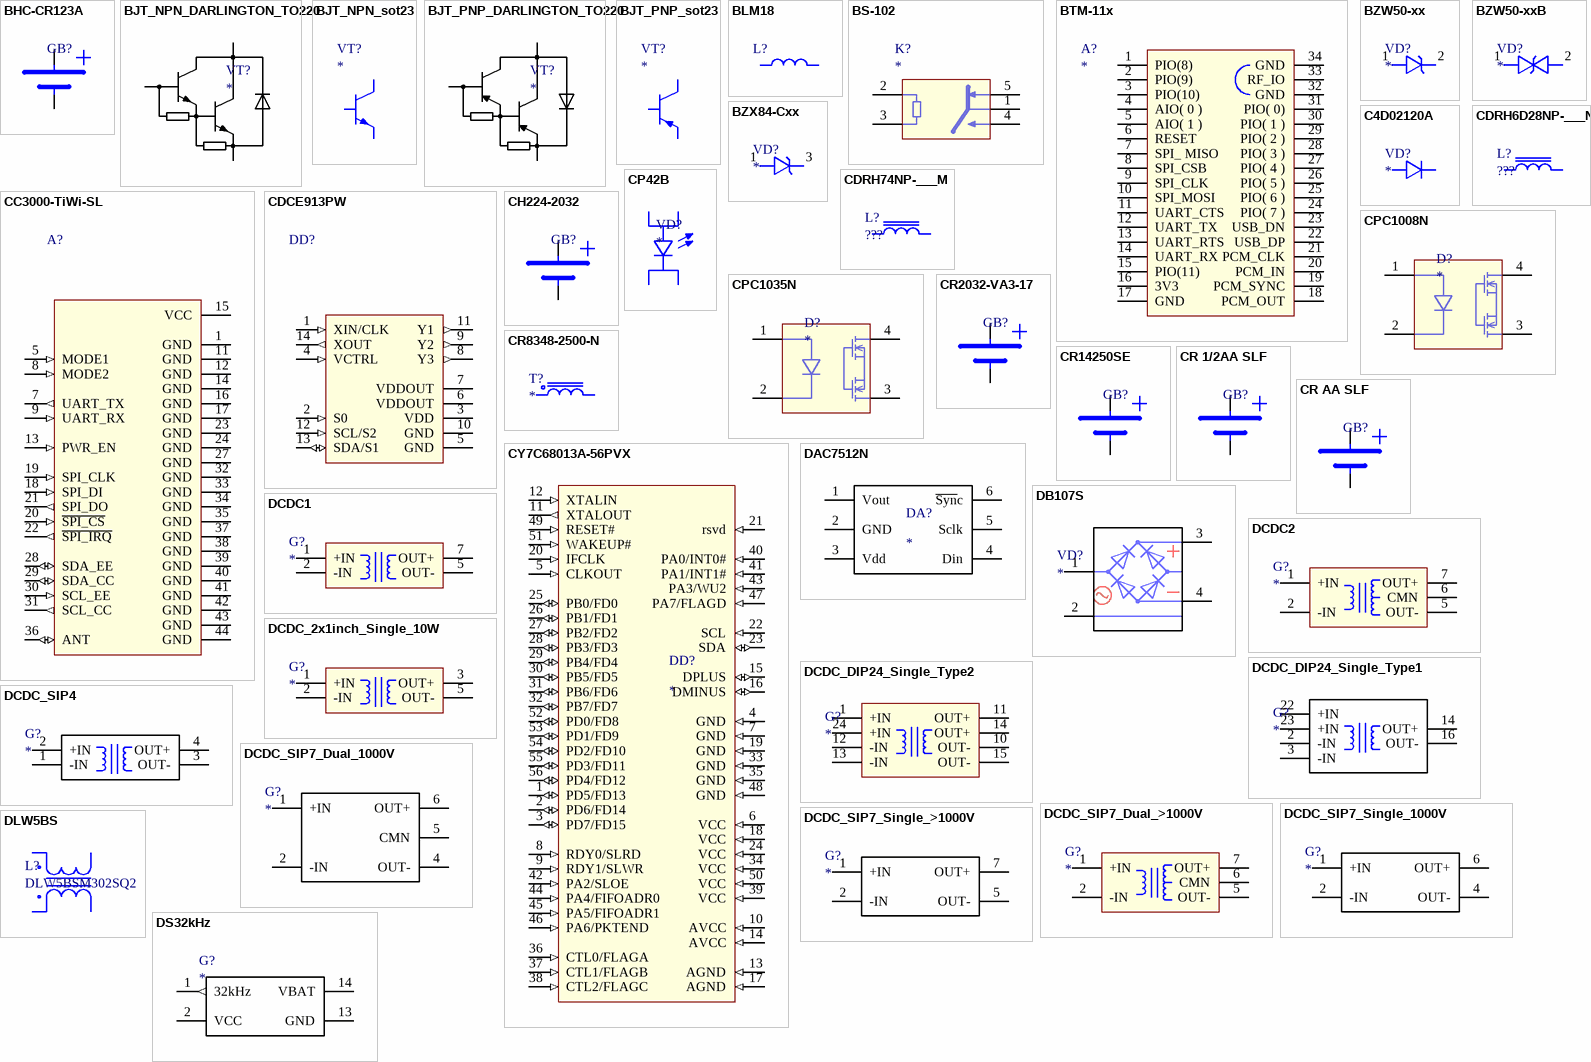
[diagram p3: symbols BHC-CR123A to DS32kHz]

## BHC-CR123A
designator GB?
BATTERY CR123A; Описание: Держатель батарейки; Аналог: нет; Комплект: Батарейка CR123A
footprint BHC-CR123A
pins: 1 +, 2 -

## BJT_NPN_DARLINGTON_TO220
designator VT?
TRANSISTOR generic npn darlington TO-220; Описание: Транзистор SOT23; Аналог: нет
footprint TO220_SK29-38S
pins: 1, 2, 3

## BJT_NPN_sot23
designator VT?
TRANSISTOR generic npn bjt sot23; Описание: Транзистор SOT23; Аналог: нет; x: BC847A
footprint SOT23
pins: 1, 2, 3

## BJT_PNP_DARLINGTON_TO220
designator VT?
TRANSISTOR generic pnp darlington TO-220; Описание: ???; Аналог: нет
footprint TO220_SK29-38S
pins: 1, 2, 3

## BJT_PNP_sot23
designator VT?
TRANSISTOR generic pnp bjt sot23; Описание: ???; Аналог: нет
footprint SOT23
pins: 1, 2, 3

## BLM18
designator L?  (value not drawn)
MAGNETIC BLM18 series ferrite bead SMD 0603; Описание: Фильтр SMD 0603; Аналог: нет; x: BLM18AG121SN1D
footprint InductorSMD0603(reflow)
footprint BLM18(manual)
pins: 1, 2

## BS-102
designator K?
RELAY spdt 1C 3..24V 2A-24V; Описание: ???; Аналог: нет
footprint BS-102
pins: 1, 2, 3, 4, 5

## BTM-11x
designator A?
MODULE RADIO Bluetooth module; Описание: ???; Аналог: нет
footprint BTM-11x
pins: 1 PIO(8), 2 PIO(9), 3 PIO(10), 4 AIO( 0 ), 5 AIO( 1 ), 6 RESET, 7 SPI_ MISO, 8 SPI_CSB, 9 SPI_CLK, 10 SPI_MOSI, 11 UART_CTS, 12 UART_TX, 13 UART_RTS, 14 UART_RX, 15 PIO(11), 16 3V3, 17 GND, 18 PCM_OUT, 19 PCM_SYNC, 20 PCM_IN, 21 PCM_CLK, 22 USB_DP, 23 USB_DN, 24 PIO( 7 ), 25 PIO( 6 ), 26 PIO( 5 ), 27 PIO( 4 ), 28 PIO( 3 ), 29 PIO( 2 ), 30 PIO( 1 ), 31 PIO( 0), 32 GND, 33 RF_IO, 34 GND

## BZW50-xx
designator VD?
DIODE TVS 5000 W TRANSIL 10V...180V; Описание: ???; Аналог: нет
footprint R6
pins: 1, 2

## BZW50-xxB
designator VD?
DIODE TVS  Bidirectional 5000 W TRANSIL 10V...180V; Описание: ???; Аналог: нет
footprint R6
pins: 1, 2

## BZX84-Cxx
designator VD?
DIODE ZENER 2.4...75V zener diodes in SOT23; Описание: Диод SOT23; Аналог: нет
footprint SOT23
pins: 1, 3

## C4D02120A
designator VD?
DIODE 1200V 2A SiC Schottky diode; Описание: Диод TO-220; Аналог: нет
footprint TO220_SiCDiode
pins: 1, 2

## CC3000-TiWi-SL
designator A?  (value not drawn)
MODULE RADIO Wi-Fi module; Описание: ???; Аналог: нет
footprint CC3000-TiWi-SL
pins: 1 GND (power), 5 MODE1 (in), 7 UART_TX (out), 8 MODE2 (in), 9 UART_RX (in), 11 GND (power), 12 GND (power), 13 PWR_EN (in), 14 GND (power), 15 VCC (power), 16 GND (power), 17 GND (power), 18 SPI_DI (in), 19 SPI_CLK (in), 20 ~{SPI_CS} (in), 21 SPI_DO (out), 22 ~{SPI_IRQ} (out), 23 GND (power), 24 GND (power), 27 GND (power), 28 SDA_EE (io), 29 SDA_CC (io), 30 SCL_EE (in), 31 SCL_CC (out), 32 GND (power), 33 GND (power), 34 GND (power), 35 GND (power), 36 ANT (io), 37 GND (power), 38 GND (power), 39 GND (power), 40 GND (power), 41 GND (power), 42 GND (power), 43 GND (power), 44 GND (power)

## CDCE913PW
designator DD?  (value not drawn)
IC Programmable 1-PLL VCXO Clock Synthesizer; Описание: ???; Аналог: нет
footprint TSSOP14_CDCE913
pins: 1 XIN/CLK (in), 2 S0 (in), 3 VDD (power), 4 VCTRL (in), 5 GND (power), 6 VDDOUT (power), 7 VDDOUT (power), 8 Y3 (out), 9 Y2 (out), 10 GND (power), 11 Y1 (out), 12 SCL/S2 (in), 13 SDA/S1 (io), 14 XOUT (out)

## CDRH6D28NP-___N
designator L?, comment ???
MAGNETIC Inductor SMD 6.7x6.7x2.8mm; Описание: Индуктивность SMD; Аналог: нет; x: CDRH6D28NP-101N = 100uH
footprint CDRH6D28NP-___N
pins: 1, 2

## CDRH74NP-___M
designator L?, comment ???
MAGNETIC Inductor SMD 7.2x7.2x3.2mm; Описание: Индуктивность SMD; Аналог: нет; x: CDRH74NP-101M = 100uH
footprint CDRH74NP-___M
pins: 1, 2

## CH224-2032
designator GB?  (value not drawn)
BATTERY CR2032; Описание: Литиевая батарейка; Аналог: нет; Комплект: Батарейка CR2032
footprint CH224-2032
pins: 1 +, 2 -

## CP42B
designator VD?
LED Cree P4 LED; Описание: ???; Аналог: нет
footprint CP42B
pins: 1, 2, 3, 4

## CPC1008N
designator D?
RELAY 100V 100mA 8Ohm; Описание: ???; Аналог: нет
footprint CPC1035N
pins: 1, 2, 3, 4

## CPC1035N
designator D?
RELAY Single-Pole, Normally Open SSR; Описание: ???; Аналог: нет
footprint CPC1035N
pins: 1, 2, 3, 4

## CR2032-VA3-17
designator GB?  (value not drawn)
BATTERY CR2032 LiMnO2 battery; Описание: Литиевая батарейка; Аналог: нет
footprint CR2032-VA3-17
pins: 1 +, 2 -

## CR8348-2500-N
designator T?
MAGNETIC; Описание: ???; Аналог: нет
footprint CR8348-2500-N
pins: 3, 4

## CR14250SE
designator GB?  (value not drawn)
BATTERY CR14250 LiMnO2 battery; Описание: ???; Аналог: нет
footprint CR14250SE
pins: 1 +, 2 -

## CR 1/2AA SLF
designator GB?  (value not drawn)
BATTERY CR 1/2AA SLF; Описание: ???; Аналог: нет
footprint CR 1/2AA SLF
pins: 1 +, 2 -

## CR AA SLF
designator GB?  (value not drawn)
BATTERY CR AA SLF; Описание: ???; Аналог: нет
footprint CR AA SLF
pins: 1 +, 2 -

## CY7C68013A-56PVX
designator DD?
IC USB HS peripheral; Описание: ???; Аналог: нет
footprint SSOP56_CY7C68013A
pins: 1 PD5/FD13 (io), 2 PD6/FD14 (io), 3 PD7/FD15 (io), 4 GND (in), 5 CLKOUT (in), 6 VCC (in), 7 GND (in), 8 RDY0/SLRD (in), 9 RDY1/SLWR (in), 10 AVCC (in), 11 XTALOUT (out), 12 XTALIN (in), 13 AGND (in), 14 AVCC (in), 15 DPLUS (io), 16 DMINUS (io), 17 AGND (in), 18 VCC (in), 19 GND (in), 20 IFCLK (in), 21 rsvd (in), 22 SCL (in), 23 SDA (io), 24 VCC (in), 25 PB0/FD0 (io), 26 PB1/FD1 (io), 27 PB2/FD2 (io), 28 PB3/FD3 (io), 29 PB4/FD4 (io), 30 PB5/FD5 (io), 31 PB6/FD6 (io), 32 PB7/FD7 (io), 33 GND (in), 34 VCC (in), 35 GND (in), 36 CTL0/FLAGA (in), 37 CTL1/FLAGB (in), 38 CTL2/FLAGC (in), 39 VCC (in), 40 PA0/INT0# (in), 41 PA1/INT1# (in), 42 PA2/SLOE (in), 43 PA3/WU2 (in), 44 PA4/FIFOADR0 (in), 45 PA5/FIFOADR1 (in), 46 PA6/PKTEND (in), 47 PA7/FLAGD (in), 48 GND (in), 49 RESET# (in), 50 VCC (in), 51 WAKEUP# (in), 52 PD0/FD8 (io), 53 PD1/FD9 (io), 54 PD2/FD10 (io), 55 PD3/FD11 (io), 56 PD4/FD12 (io)

## DAC7512N
designator DA?
IC DAC 12-bit; Описание: ???
footprint SOT23-6
pins: 1 Vout, 2 GND, 3 Vdd, 4 Din, 5 Sclk, 6 ~{Syn}c

## DB107S
designator VD?
DIODE 1A 1000V SMD bridge rectifier; Описание: Диод сборка; Аналог: нет
footprint DB107S
pins: 1 AC1, 2 AC2, 3 DC+, 4 DC-

## DCDC1
designator G?
TEMPLATE dc/dc single output template; Описание: Модуль питания; Аналог: нет
pins: 1 +IN (power), 2 -IN (power), 5 OUT- (power), 7 OUT+ (power)

## DCDC2
designator G?
TEMPLATE dc/dc double output template; Описание: Модуль питания; Аналог: нет
pins: 1 +IN (power), 2 -IN (power), 5 OUT- (power), 6 CMN (power), 7 OUT+ (power)

## DCDC_2x1inch_Single_10W
designator G?
MODULE POWER Generic DC/DC SIP7-package Single output Generic DC/DC SIP7-package Dual output High isolation; Описание: Модуль DC-DC; Аналог: нет
footprint DCDC_10W
pins: 1 +IN (power), 2 -IN (power), 3 OUT+ (power), 5 OUT- (power)

## DCDC_DIP24_Single_Type1
designator G?
MODULE POWER Generic DC/DC DIP24-package Single output Type 1 pinout; Описание: Модуль DC-DC; Аналог: нет
footprint DIP24_Type1_DCDC
pins: 2 -IN (power), 3 -IN (power), 14 OUT+ (power), 16 OUT- (power), 22 +IN (power), 23 +IN (power)

## DCDC_DIP24_Single_Type2
designator G?
MODULE POWER Generic DC/DC DIP24-package Single output Type 1 pinout; Описание: Модуль DC-DC; Аналог: нет
footprint DIP24_Type2_DCDC
pins: 1 +IN (power), 10 OUT- (power), 11 OUT+ (power), 12 -IN (power), 13 -IN (power), 14 OUT+ (power), 15 OUT- (power), 24 +IN (power)

## DCDC_SIP4
designator G?
MODULE POWER Generic DC/DC SIP4-package  Single output; Описание: Модуль DC-DC; Аналог: нет
footprint SIP4_DCDC
pins: 1 -IN (power), 2 +IN (power), 3 OUT- (power), 4 OUT+ (power)

## DCDC_SIP7_Dual_1000V
designator G?
MODULE POWER Generic DC/DC SIP7-package Dual output Low isolation; Описание: Модуль DC-DC; Аналог: нет
footprint SIP7_DCDC_Dual_1000V (Low isolation voltage , double output)
pins: 1 +IN (power), 2 -IN (power), 4 OUT- (power), 5 CMN (power), 6 OUT+ (power)

## DCDC_SIP7_Dual_>1000V
designator G?
MODULE POWER Generic DC/DC SIP7-package Dual output High isolation; Описание: Модуль DC-DC; Аналог: нет
footprint SIP7_DCDC_Dual_>1000V (High isolation voltage , double output)
pins: 1 +IN (power), 2 -IN (power), 5 OUT- (power), 6 CMN (power), 7 OUT+ (power)

## DCDC_SIP7_Single_1000V
designator G?
MODULE POWER Generic DC/DC SIP7-package Single output Generic DC/DC SIP7-package Dual output Low isolation; Описание: Модуль DC-DC; Аналог: нет
footprint SIP7_DCDC_Single_1000V (Low isolation voltage , single output)
pins: 1 +IN (power), 2 -IN (power), 4 OUT- (power), 6 OUT+ (power)

## DCDC_SIP7_Single_>1000V
designator G?
MODULE POWER Generic DC/DC SIP7-package Single output Generic DC/DC SIP7-package Dual output High isolation; Описание: Модуль DC-DC; Аналог: нет
footprint SIP7_DCDC_Single_>1000V (High isolation voltage , single output)
pins: 1 +IN (power), 2 -IN (power), 5 OUT- (power), 7 OUT+ (power)

## DLW5BS
designator L?, comment DLW5BSM302SQ2
MAGNETIC Chip common mode choke; Описание: ???; Аналог: нет
footprint DLW5BS
pins: 1, 2, 3, 4

## DS32kHz
designator G?
OSCILLATOR TCXO 32kHz; Описание: Микросхема SO16; Аналог: нет
footprint SO16W
pins: 1 32kHz (out), 2 VCC (power), 13 GND (power), 14 VBAT (power)

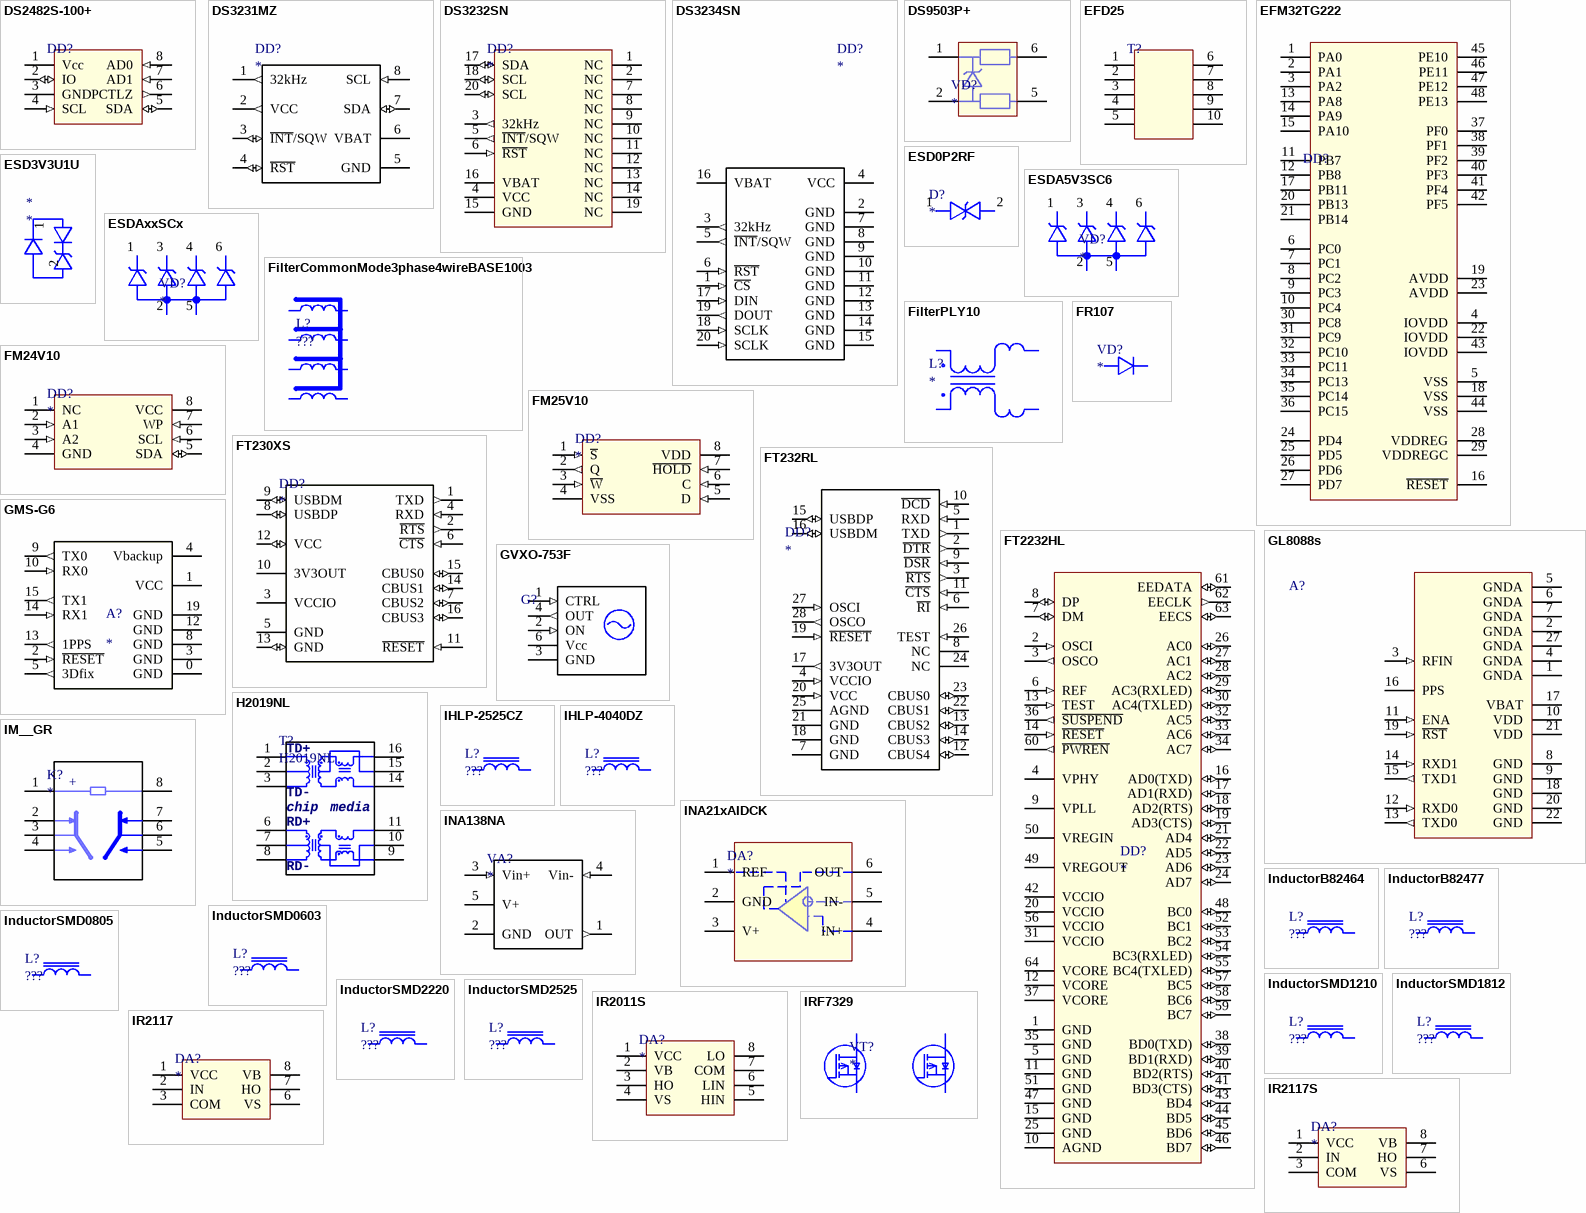
[diagram p4: symbols DS2482S-100+ to IRF7329]

## DS2482S-100+
designator DD?  (value not drawn)
IC Single-Channel 1-Wire Master; Описание: Микросхема SO-8; Аналог: нет
footprint SO8
pins: 1 Vcc (power), 2 IO (io), 3 GND (power), 4 SCL (in), 5 SDA (io), 6 PCTLZ (out), 7 AD1 (in), 8 AD0 (in)

## DS3231MZ
designator DD?
IC Extremely Accurate SPI Bus RTC with Integrated Crystal and SRAM; Описание: Микросхема SO8; Аналог: нет
footprint SO8
pins: 1 32kHz (out), 2 VCC (out), 3 ~{INT}/SQW (io), 4 ~{RST} (io), 5 GND (power), 6 VBAT (power), 7 SDA (io), 8 SCL (in)

## DS3232SN
designator DD?
IC Extremely Accurate I2C RTC with  Integrated Crystal and SRAM; Описание: ???; Аналог: нет
footprint SO20W
pins: 1 NC, 2 NC, 3 32kHz (out), 4 VCC (power), 5 ~{INT}/SQW (out), 6 ~{RST} (in), 7 NC, 8 NC, 9 NC, 10 NC, 11 NC, 12 NC, 13 NC, 14 NC, 15 GND (power), 16 VBAT (power), 17 SDA (io), 18 SCL (io), 19 NC, 20 SCL (io)

## DS3234SN
designator DD?
IC Extremely Accurate SPI Bus RTC with Integrated Crystal and SRAM; Описание: ???; Аналог: нет
footprint SO20W
pins: 1 ~{CS} (in), 2 GND (power), 3 32kHz (out), 4 VCC (power), 5 ~{INT}/SQW (out), 6 ~{RST} (in), 7 GND (power), 8 GND (power), 9 GND (power), 10 GND (power), 11 GND (power), 12 GND (power), 13 GND (power), 14 GND (power), 15 GND (power), 16 VBAT (power), 17 DIN (in), 18 SCLK (in), 19 DOUT (out), 20 SCLK (in)

## DS9503P+
designator VD?
DIODE 1-wire ESD protection; Описание: Диод TSOC6; Аналог: нет
footprint TSOC6
pins: 1, 2, 5, 6

## EFD25
designator T?  (value not drawn)
MAGNETIC Epcos EFD25 coil former B66422W1010D001; Описание: ???; Аналог: нет
footprint B66422W1010D001
pins: 1  , 2  , 3  , 4  , 5  , 6  , 7  , 8  , 9  , 10  

## EFM32TG222
designator DD?  (value not drawn)
IC Cortex-M3; Описание: ???; Аналог: нет
footprint QFP48_EFM32
pins: 1 PA0, 2 PA1, 3 PA2, 4 IOVDD, 5 VSS, 6 PC0, 7 PC1, 8 PC2, 9 PC3, 10 PC4, 11 PB7, 12 PB8, 13 PA8, 14 PA9, 15 PA10, 16 ~{RESET}, 17 PB11, 18 VSS, 19 AVDD, 20 PB13, 21 PB14, 22 IOVDD, 23 AVDD, 24 PD4, 25 PD5, 26 PD6, 27 PD7, 28 VDDREG, 29 VDDREGC, 30 PC8, 31 PC9, 32 PC10, 33 PC11, 34 PC13, 35 PC14, 36 PC15, 37 PF0, 38 PF1, 39 PF2, 40 PF3, 41 PF4, 42 PF5, 43 IOVDD, 44 VSS, 45 PE10, 46 PE11, 47 PE12, 48 PE13

## ESD0P2RF
designator D?
DIODE TVS directional Ultra Low Capacitance TVS Diode; Описание: ???; Аналог: нет
footprint TSLP-2-17
pins: 1, 2

## ESD3V3U1U
designator *
DIODE TVS Ultra-Low Capacitance TVS Diode; Описание: ???; Аналог: нет
footprint TSLP-2-17
pins: 1, 2

## ESDA5V3SC6
designator VD?
DIODE TVS; Описание: ???; Аналог: нет
footprint SOT23-6
pins: 1, 2, 3, 4, 5, 6

## ESDAxxSCx
designator VD?
DIODE TVS Quad Transil array for ESD protection; Описание: ???; Аналог: нет
footprint SOT23-6
pins: 1, 2, 3, 4, 5, 6

## FilterCommonMode3phase4wireBASE1003
designator L?, comment ???
MAGNETIC Inductor SMD 0805; Аналог: нет; Описание: ???
footprint BEC_BASE1003
pins: 2, 3, 4, 5, 8, 9, 10, 11

## FilterPLY10
designator L?
MAGNETIC Mains filter; Описание: ???; Аналог: нет
footprint PLY10
pins: 1, 2, 3, 4

## FM24V10
designator DD?
IC 1Mb Serial 3V F-RAM Memory; Описание: ???; Аналог: нет
footprint SO8
pins: 1 NC, 2 A1 (in), 3 A2 (in), 4 GND (power), 5 SDA (io), 6 SCL (in), 7 WP (in), 8 VCC (power)

## FM25V10
designator DD?
IC 1Mb Serial 3V F-RAM Memory; Описание: ???; Аналог: нет
footprint SO8
pins: 1 ~{S} (in), 2 Q (out), 3 ~{W} (in), 4 VSS (power), 5 D (in), 6 C (in), 7 ~{HOLD} (in), 8 VDD (power)

## FR107
designator VD?
DIODE 1.0 fast recovery rectifier; Описание: ???; Аналог: нет
footprint DO41_FR107
pins: 1, 2

## FT230XS
designator DD?
IC Full Speed USB to Basic UART; Описание: Микросхема SSOP16; Аналог: нет; x: *
footprint SSOP16
pins: 1 TXD (out), 2 ~{RTS} (out), 3 VCCIO (power), 4 RXD (in), 5 GND (power), 6 ~{CTS} (in), 7 CBUS2 (io), 8 USBDP (io), 9 USBDM (io), 10 3V3OUT (power), 11 ~{RESET} (in), 12 VCC (io), 13 GND (io), 14 CBUS1 (io), 15 CBUS0 (io), 16 CBUS3 (io)

## FT232RL
designator DD?
IC USB UART IC; Описание: Микросхема SSOP28; Аналог: нет
footprint SSOP28_FT232RL
pins: 1 TXD (out), 2 ~{DTR} (out), 3 ~{RTS} (out), 4 VCCIO (in), 5 RXD (in), 6 ~{RI} (in), 7 GND (power), 8 NC, 9 ~{DSR} (in), 10 ~{DCD} (in), 11 ~{CTS} (in), 12 CBUS4 (io), 13 CBUS2 (io), 14 CBUS3 (io), 15 USBDP (io), 16 USBDM (io), 17 3V3OUT (out), 18 GND (power), 19 ~{RESET} (in), 20 VCC (in), 21 GND (power), 22 CBUS1 (io), 23 CBUS0 (io), 24 NC, 25 AGND (power), 26 TEST (in), 27 OSCI (in), 28 OSCO (out)

## FT2232HL
designator DD?
IC Dual High Speed USB to Multipurpose UART/FIFO IC; Описание: ???; Аналог: нет
footprint LQFP64_FT2232HL
pins: 1 GND (power), 2 OSCI (in), 3 OSCO (out), 4 VPHY (power), 5 GND (power), 6 REF (in), 7 DM (io), 8 DP (io), 9 VPLL (power), 10 AGND (power), 11 GND (power), 12 VCORE (power), 13 TEST (in), 14 ~{RESET} (in), 15 GND (power), 16 AD0(TXD) (io), 17 AD1(RXD) (io), 18 AD2(RTS) (io), 19 AD3(CTS) (io), 20 VCCIO (power), 21 AD4 (io), 22 AD5 (io), 23 AD6 (io), 24 AD7 (io), 25 GND (power), 26 AC0 (io), 27 AC1 (io), 28 AC2 (io), 29 AC3(RXLED) (io), 30 AC4(TXLED) (io), 31 VCCIO (power), 32 AC5 (io), 33 AC6 (io), 34 AC7 (io), 35 GND (power), 36 ~{SUSPEND} (out), 37 VCORE (power), 38 BD0(TXD) (io), 39 BD1(RXD) (io), 40 BD2(RTS) (io), 41 BD3(CTS) (io), 42 VCCIO (power), 43 BD4 (io), 44 BD5 (io), 45 BD6 (io), 46 BD7 (io), 47 GND (power), 48 BC0 (io), 49 VREGOUT (power), 50 VREGIN (power), 51 GND (power), 52 BC1 (io), 53 BC2 (io), 54 BC3(RXLED) (io), 55 BC4(TXLED) (io), 56 VCCIO (power), 57 BC5 (io), 58 BC6 (io), 59 BC7 (io), 60 ~{PWREN} (out), 61 EEDATA (io), 62 EECLK (out), 63 EECS (io), 64 VCORE (power)

## GL8088s
designator A?  (value not drawn)
MODULE RADIO GPS/GLONASS; Описание: ???; Аналог: нет
footprint GL8088s
pins: 1 GNDA (power), 2 GNDA (power), 3 RFIN (in), 4 GNDA (power), 5 GNDA (power), 6 GNDA (power), 7 GNDA (power), 8 GND (power), 9 GND (power), 10 VDD (power), 11 ENA (in), 12 RXD0 (in), 13 TXD0 (out), 14 RXD1 (in), 15 TXD1 (out), 16 PPS, 17 VBAT (power), 18 GND (power), 19 ~{RST} (in), 20 GND (power), 21 VDD (power), 22 GND (power), 27 GNDA (power)

## GMS-G6
designator A?
MODULE RADIO GPS/GLONASS; Аналог: нет; Описание: Радио-модуль
footprint GMS-G6
pins: 0 GND, 1 VCC, 2 ~{RESET} (in), 3 GND, 4 Vbackup, 5 3Dfix (out), 8 GND, 9 TX0 (out), 10 RX0 (in), 12 GND, 13 1PPS (out), 14 RX1 (in), 15 TX1 (out), 19 GND

## GVXO-753F
designator G?
OSCILLATOR VCXO; Описание: Кварц. генератор SMD; Аналог: нет
footprint GVXO-753F
pins: 1 CTRL (in), 2 ON (in), 3 GND (power), 4 OUT (out), 6 Vcc (power)

## H2019NL
designator T?
MAGNETIC 10/100BASE-TX Magnetic Module (PoE); Описание: Трансформатор SO16; Аналог: нет; Part Number: H2019NL; Value: H2019NL
footprint SO16W_H2019NL
pins: 1, 2, 3, 6, 7, 8, 9, 10, 11, 14, 15, 16
text: TD+; TD-; chip; media; RD+; RD-

## IHLP-2525CZ
designator L?, comment ???
MAGNETIC Inductor SMD 2525 h=3mm; Описание: Индуктивность SMD 2525; Аналог: нет
footprint IHLP-2525DZ(manual/normal)
pins: 1, 2

## IHLP-4040DZ
designator L?, comment ???
MAGNETIC Inductor SMD 4040 h=4mm; Описание: Индуктивность SMD 2525; Аналог: нет
footprint IHLP-4040DZ(manual/normal)
footprint IHLP-4040DZ(manual/deep1.5mm)
pins: 1, 2

## IM__GR
designator K?
RELAY smd signal relay; Описание: Реле; x: IM03GR(5VDC), IM01GR (3VDC)
footprint IMxxGR
pins: 1, 2, 3, 4, 5, 6, 7, 8
text: +

## INA21xAIDCK
designator DA?
IC current shunt monitor; Описание: ???; Аналог: нет
footprint SC70-6
pins: 1 REF, 2 GND, 3 V+, 4 IN+, 5 IN- (power), 6 OUT (power)

## INA138NA
designator VA?
IC High-Side Current Shunt Monitor 2.7...36V; Описание: Микросхема SOT23-5; Аналог: нет; x: INA138
footprint SOT23-5
pins: 1 OUT (out), 2 GND (power), 3 Vin+ (in), 4 Vin- (in), 5 V+ (power)

## InductorB82464
designator L?, comment ???
MAGNETIC Epcos B82464 Inductor SMD 10.4x10.4mm; Аналог: нет; Описание: ???
footprint B82464
pins: 1, 2

## InductorB82477
designator L?, comment ???
MAGNETIC Epcos B82477 Inductor SMD 12.8x12.8mm; Описание: Индуктивность; Аналог: нет
footprint B82477
pins: 1, 2

## InductorSMD0603
designator L?, comment ???
MAGNETIC Inductor SMD 0603; Описание: Индуктивность SMD 0603; Аналог: нет; Part Number: *
footprint InductorSMD0603(reflow)
footprint InductorSMD0603(manual)
pins: 1, 2

## InductorSMD0805
designator L?, comment ???
MAGNETIC Inductor SMD 0805; Аналог: Индуктивность SMD 0805; Описание: ???; Part Number: *
footprint InductorSMD0805(reflow)
pins: 1, 2

## InductorSMD1210
designator L?, comment ???
MAGNETIC Inductor SMD 1210; Описание: Индуктивность SMD 1210; x: LQH32CN4R7
footprint InductorSMD1210(reflow)
footprint InductorSMD1210(manual,LQH32)
pins: 1, 2

## InductorSMD1812
designator L?, comment ???
MAGNETIC Inductor SMD 1812; Аналог: Индуктивность SMD 1812; Описание: ???
pins: 1, 2

## InductorSMD2220
designator L?, comment ???
MAGNETIC Inductor SMD 2220; Аналог: Индуктивность SMD 2020; Описание: ???
footprint InductorSMD2220
pins: 1, 2

## InductorSMD2525
designator L?, comment ???
MAGNETIC Inductor SMD 2525; Описание: Индуктивность SMD 2525; Аналог: нет
footprint InductorSMD2525
pins: 1, 2

## IR2011S
designator DA?
IC High and low side gate driver; Описание: ???; Аналог: нет
footprint SO8
pins: 1 VCC, 2 VB, 3 HO, 4 VS, 5 HIN, 6 LIN, 7 COM, 8 LO

## IR2117
designator DA?
IC Single channel gate driver; Описание: ???; Аналог: нет
footprint DIP8_ATTINY13
pins: 1 VCC, 2 IN, 3 COM, 6 VS, 7 HO, 8 VB

## IR2117S
designator DA?
IC Single channel gate driver; Описание: ???; Аналог: нет
footprint SO8
pins: 1 VCC, 2 IN, 3 COM, 6 VS, 7 HO, 8 VB

## IRF7329
designator VT?
TRANSISTOR MOSFET dual P; Описание: ???; Аналог: нет
footprint SO8
pins: 1 S, 2 G, 3 S, 4 G, 5 D, 6 D, 7 D, 8 D

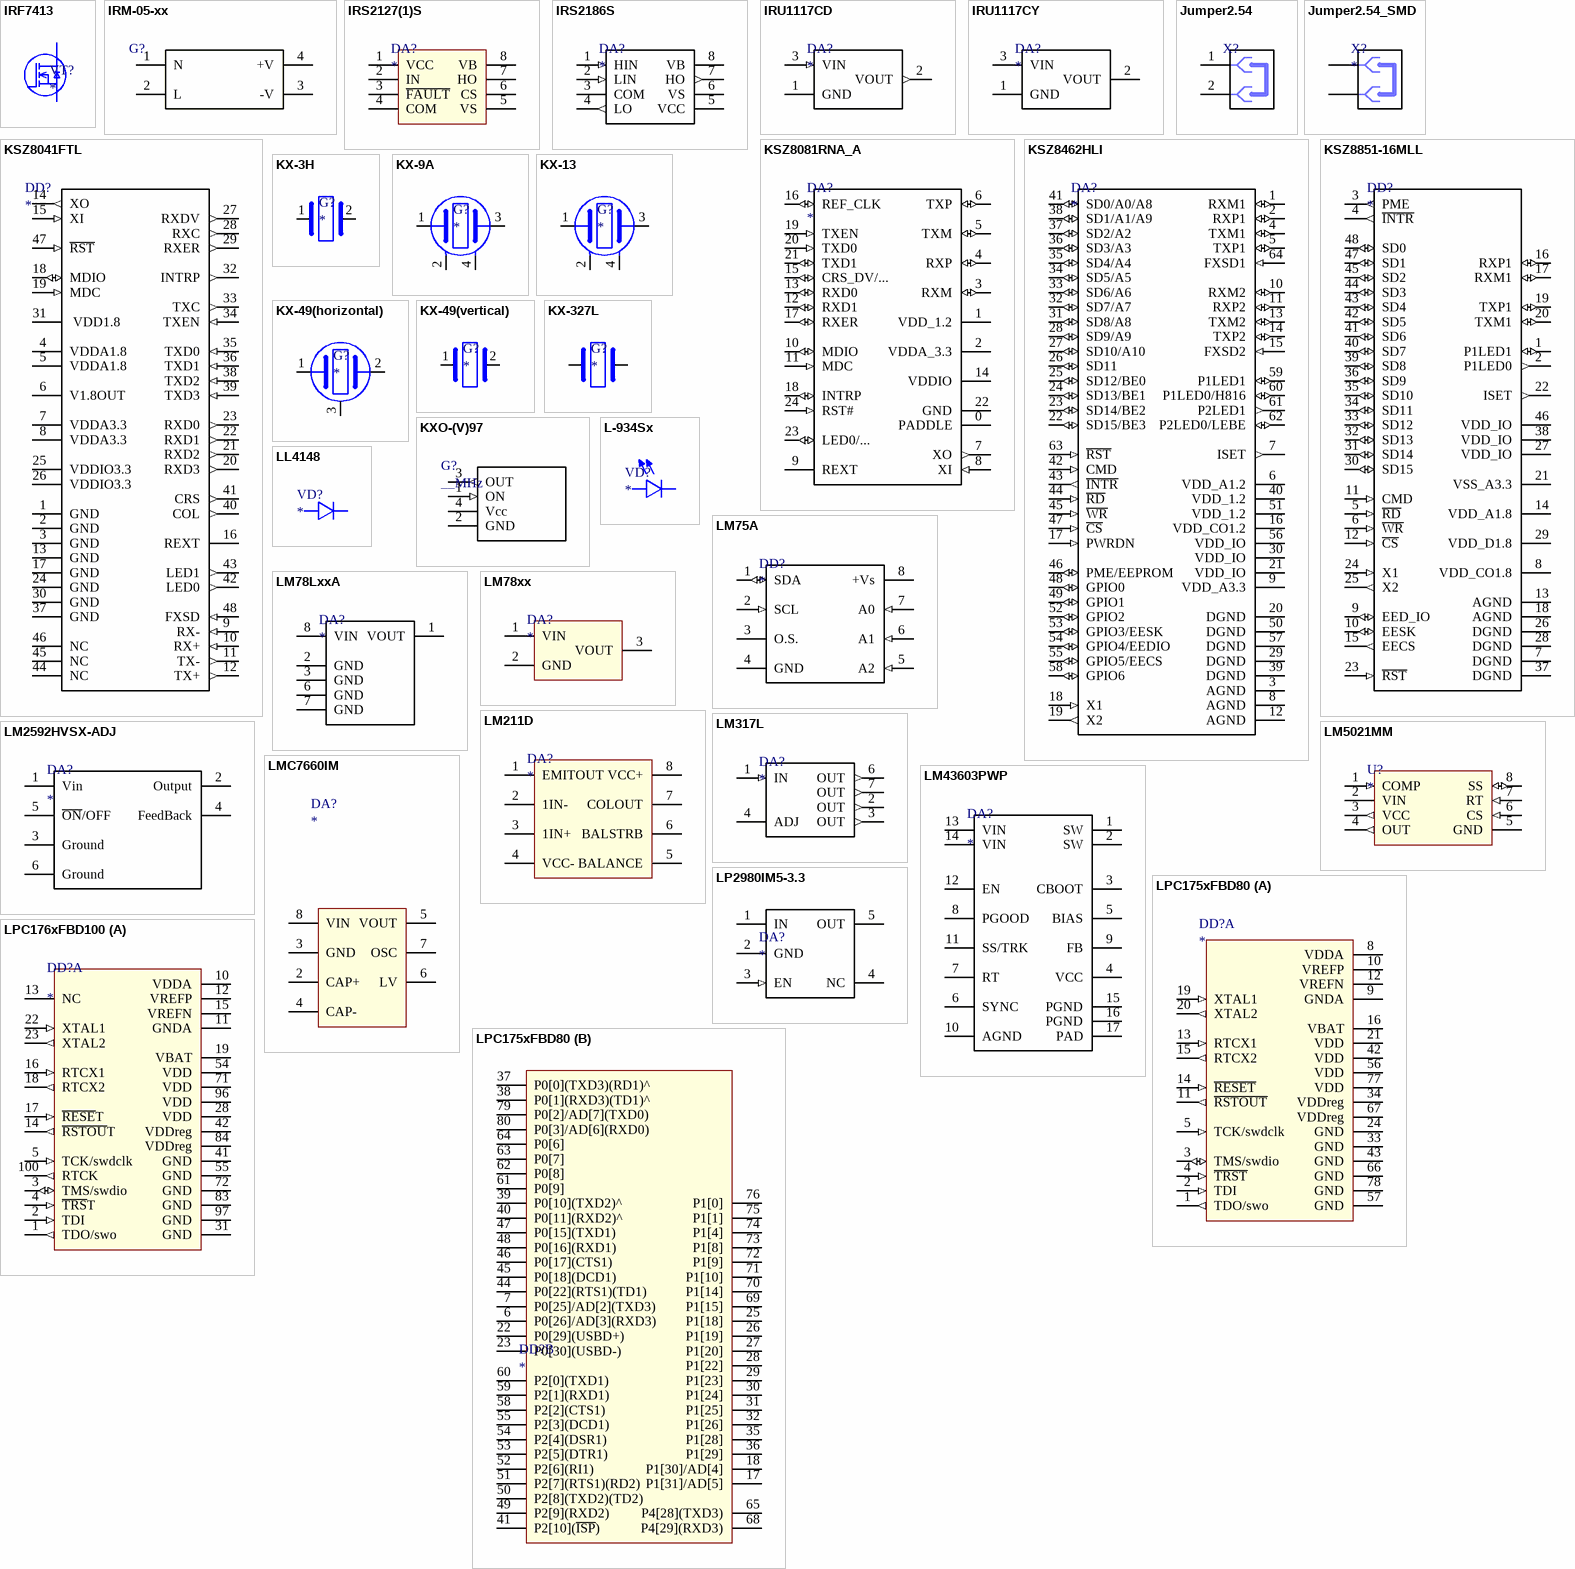
[diagram p5: symbols IRF7413 to LPC176xFBD100]

## IRF7413
designator VT?
TRANSISTOR MOSFET N 30V 0.01ohm; Описание: Транзистор SO8; Аналог: нет
footprint SO8
pins: 1 S, 2 S, 3 S, 4 G, 5 D, 6 D, 7 D, 8 D

## IRM-05-xx
designator G?
MODULE POWER AC/DC 5W; Описание: Модуль AC-DC; Аналог: нет
footprint IRM-05
pins: 1 N (power), 2 L (power), 3 -V (power), 4 +V (power)

## IRS2127(1)S
designator DA?
IC Single channel gate driver; Описание: ???; Аналог: нет
footprint SO8
pins: 1 VCC, 2 IN, 3 ~{FAULT}, 4 COM, 5 VS, 6 CS, 7 HO, 8 VB

## IRS2186S
designator DA?
IC High and Low Side  Driver; Описание: Микросхема SO8; Аналог: нет
footprint SO8
pins: 1 HIN (in), 2 LIN (in), 3 COM (power), 4 LO (out), 5 VCC (power), 6 VS (power), 7 HO (out), 8 VB (power)

## IRU1117CD
designator DA?
IC POWER LDO; Описание: ???; Аналог: нет
footprint DPAK
pins: 1 GND (power), 2 VOUT (out), 3 VIN (in)

## IRU1117CY
designator DA?
IC POWER LDO; Описание: Микросхема SOT223; Аналог: LM1117MP
footprint SOT223
pins: 1 GND, 2 VOUT, 3 VIN

## Jumper2.54
designator X?, comment PLD-2 (DS1021-2x1)  (value not drawn)
SWITCH Jumper 2.54mm pitch; Описание: Джампер; Аналог: нет; Комплект: DS1027-2 L; Part Number: PLD-2 (DS1021-2x1); ValueEx: PLD-2 (DS1021-2x1); Value: PLD-2 (DS1021-2x1)
footprint Jumper2.54
pins: 1, 2

## Jumper2.54_SMD
designator X?
SWITCH Jumper 2.54mm pitch; Описание: Джампер; Аналог: нет; Комплект: DS1027-2 L
footprint Jumper2.54_SMD
pins: 1, 2

## KSZ8041FTL
designator DD?
IC 100Base-FX Physical Layer Transceiver; Описание: Микросхема TQFP48; Аналог: нет
footprint TQFP48_KSZ8041xTL
pins: 1 GND (power), 2 GND (power), 3 GND (power), 4 VDDA1.8 (power), 5 VDDA1.8 (power), 6 V1.8OUT (power), 7 VDDA3.3 (power), 8 VDDA3.3 (power), 9 RX- (in), 10 RX+ (in), 11 TX- (out), 12 TX+ (out), 13 GND (power), 14 XO (out), 15 XI (in) "/ REFCLK /CLOCK", 16 REXT, 17 GND (power), 18 MDIO (io), 19 MDC (in), 20 RXD3 (out) "/PHYAD0", 21 RXD2 (out) "/PHYAD1", 22 RXD1 (out) "/ RXD[1] /PHYAD2", 23 RXD0 (out) "/ RXD[0] / RXDUPLEX", 24 GND (power), 25 VDDIO3.3 (power), 26 VDDIO3.3 (power), 27 RXDV (out) "/ CRSDV /CONFIG2", 28 RXC (out), 29 RXER (out) "/ RX_ER /ISO", 30 GND (power), 31  VDD1.8 (power), 32 INTRP (out), 33 TXC (out), 34 TXEN (in) "/TX_EN", 35 TXD0 (in) "/ TXD[0] /TX", 36 TXD1 (in) "/ TXD[1] /SYNC", 37 GND (power), 38 TXD2 (in), 39 TXD3 (in), 40 COL (out) "/CONFIG0", 41 CRS (out) "/CONFIG1", 42 LED0 (out) "/NWAYEN/no FEF", 43 LED1 (out) "/SPEED", 44 NC, 45 NC, 46 NC, 47 ~{RST} (in), 48 FXSD (in) "/FXEN"

## KSZ8081RNA_A
designator DA?
IC Ethernet PHY; Описание: Микросхема QFN24; x: KSZ8081RNAIA/KSZ8081RNACAA - Industrial/(Commercial
footprint QFN24_KSZ Manual
footprint QFN24_KSZ Reflow
pins: 0 PADDLE (power), 1 VDD_1.2 (power), 2 VDDA_3.3 (power), 3 RXM (io), 4 RXP (io), 5 TXM (io), 6 TXP (io), 7 XO (out), 8 XI (in), 9 REXT, 10 MDIO (io), 11 MDC (in), 12 RXD1 (io), 13 RXD0 (io), 14 VDDIO (power), 15 CRS_DV/... (io), 16 REF_CLK (io), 17 RXER (io), 18 INTRP (io), 19 TXEN (in), 20 TXD0 (in), 21 TXD1 (io), 22 GND (power), 23 LED0/... (io), 24 RST# (in)

## KSZ8462HLI
designator DA?
IC ieee1588 3-port switch; Аналог: нет; Описание: ???
footprint LQFP64_KSZ8462
pins: 1 RXM1 (io), 2 RXP1 (io), 3 AGND (power), 4 TXM1 (io), 5 TXP1 (io), 6 VDD_A1.2 (power), 7 ISET (out), 8 AGND (power), 9 VDD_A3.3 (power), 10 RXM2 (io), 11 RXP2 (io), 12 AGND (power), 13 TXM2 (io), 14 TXP2 (io), 15 FXSD2 (in), 16 VDD_CO1.2 (power), 17 PWRDN (in), 18 X1 (in), 19 X2 (out), 20 DGND (power), 21 VDD_IO (power), 22 SD15/BE3 (io), 23 SD14/BE2 (io), 24 SD13/BE1 (io), 25 SD12/BE0 (io), 26 SD11 (io), 27 SD10/A10 (io), 28 SD9/A9 (io), 29 DGND (power), 30 VDD_IO (power), 31 SD8/A8 (io), 32 SD7/A7 (io), 33 SD6/A6 (io), 34 SD5/A5 (io), 35 SD4/A4 (io), 36 SD3/A3 (io), 37 SD2/A2 (io), 38 SD1/A1/A9 (io), 39 DGND (power), 40 VDD_1.2 (power), 41 SD0/A0/A8 (io), 42 CMD (in), 43 ~{INTR} (out), 44 ~{RD} (in), 45 ~{WR} (in), 46 PME/EEPROM (io), 47 ~{CS} (in), 48 GPIO0 (io), 49 GPIO1 (io), 50 DGND (power), 51 VDD_1.2 (power), 52 GPIO2 (io), 53 GPIO3/EESK (io), 54 GPIO4/EEDIO (io), 55 GPIO5/EECS (io), 56 VDD_IO (power), 57 DGND (power), 58 GPIO6 (io), 59 P1LED1 (io), 60 P1LED0/H816 (io), 61 P2LED1 (out), 62 P2LED0/LEBE (io), 63 ~{RST} (in), 64 FXSD1 (in)

## KSZ8851-16MLL
designator DD?
IC Ethernet controller; Аналог: нет; Описание: ???
footprint TQFP48_KSZ8041xTL
pins: 1 P1LED1 (io), 2 P1LED0 (out), 3 PME (out), 4 ~{INTR} (out), 5 ~{RD} (in), 6 ~{WR} (in), 7 DGND (power), 8 VDD_CO1.8 (power), 9 EED_IO (io), 10 EESK (io), 11 CMD (in), 12 ~{CS} (in), 13 AGND (power), 14 VDD_A1.8 (power), 15 EECS (out), 16 RXP1 (io), 17 RXM1 (io), 18 AGND (power), 19 TXP1 (io), 20 TXM1 (io), 21 VSS_A3.3 (power), 22 ISET (out), 23 ~{RST} (in), 24 X1 (in), 25 X2 (out), 26 DGND (power), 27 VDD_IO (power), 28 DGND (power), 29 VDD_D1.8 (power), 30 SD15 (io), 31 SD14 (io), 32 SD13 (io), 33 SD12 (io), 34 SD11 (io), 35 SD10 (io), 36 SD9 (io), 37 DGND (power), 38 VDD_IO (power), 39 SD8 (io), 40 SD7 (io), 41 SD6 (io), 42 SD5 (io), 43 SD4 (io), 44 SD3 (io), 45 SD2 (io), 46 VDD_IO (power), 47 SD1 (io), 48 SD0 (io)

## KX-3H
designator G?
OSCILLATOR Geyer Quartz Crystal HC-49/U3H (low profile); Описание: ???; Аналог: нет
footprint HC-49/U3H
pins: 1, 2